# Altium schematic symbol library Schlib_Altera.SchLib: 17 symbols (part 1 of 4)
Pins are listed as number, name and electrical type; pins without a type are passive.

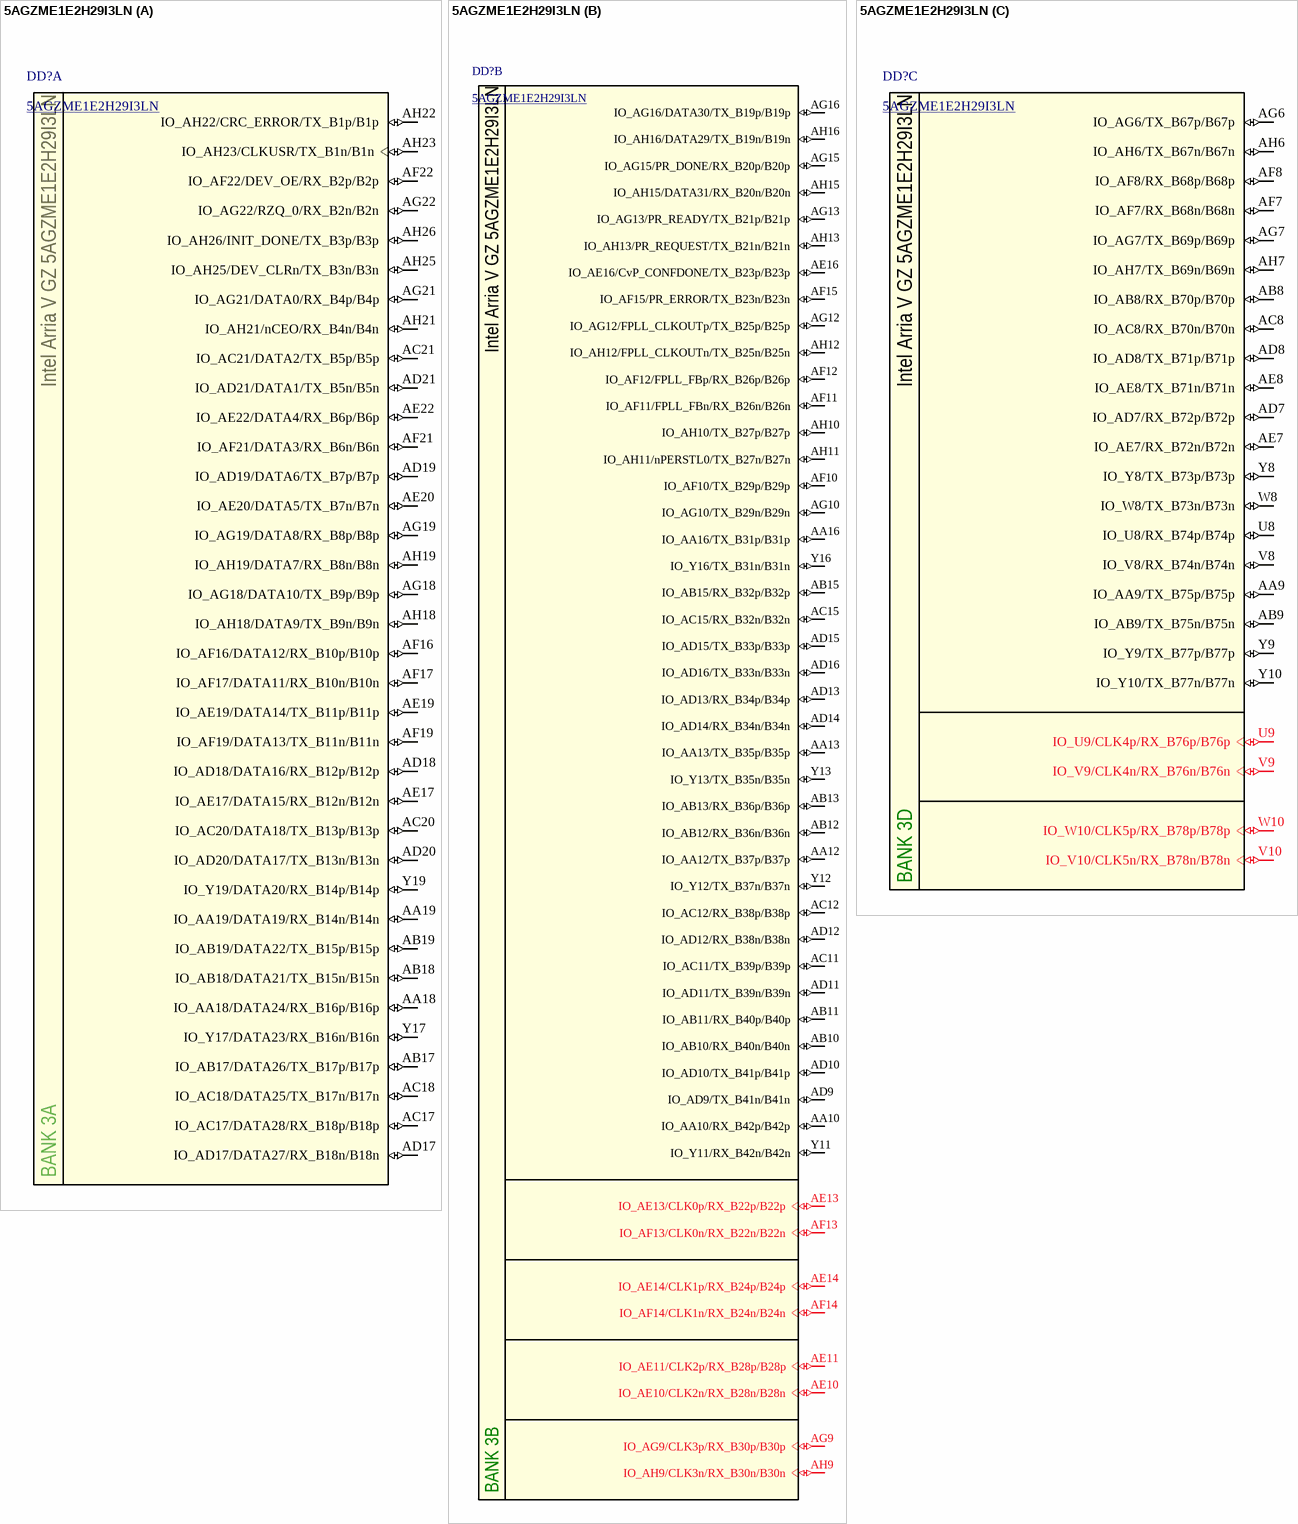
[diagram p0: symbol 5AGZME1E2H29I3LN]

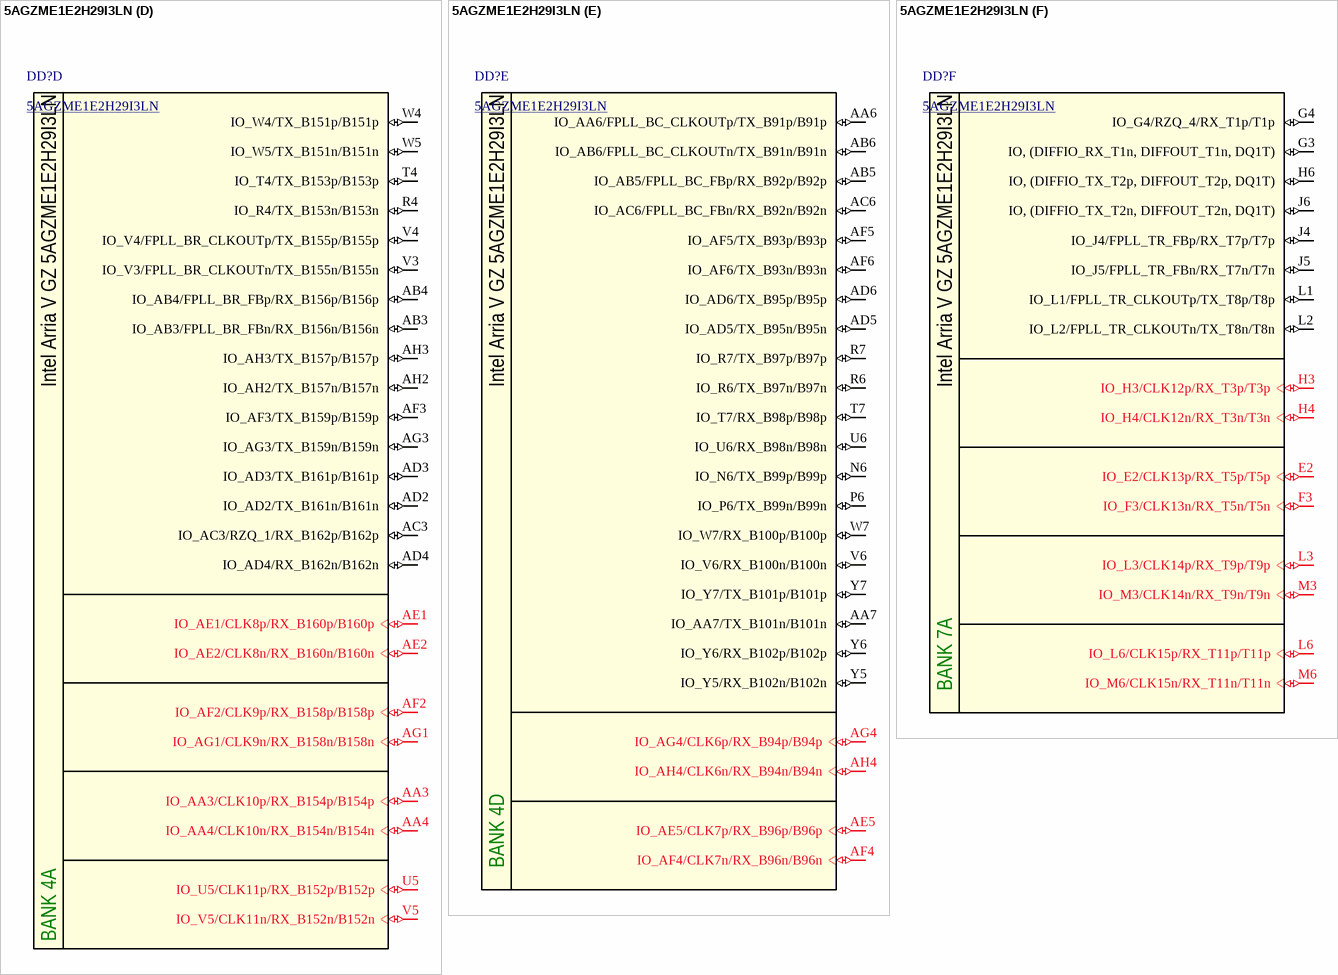
[diagram p1: symbol 5AGZME1E2H29I3LN]

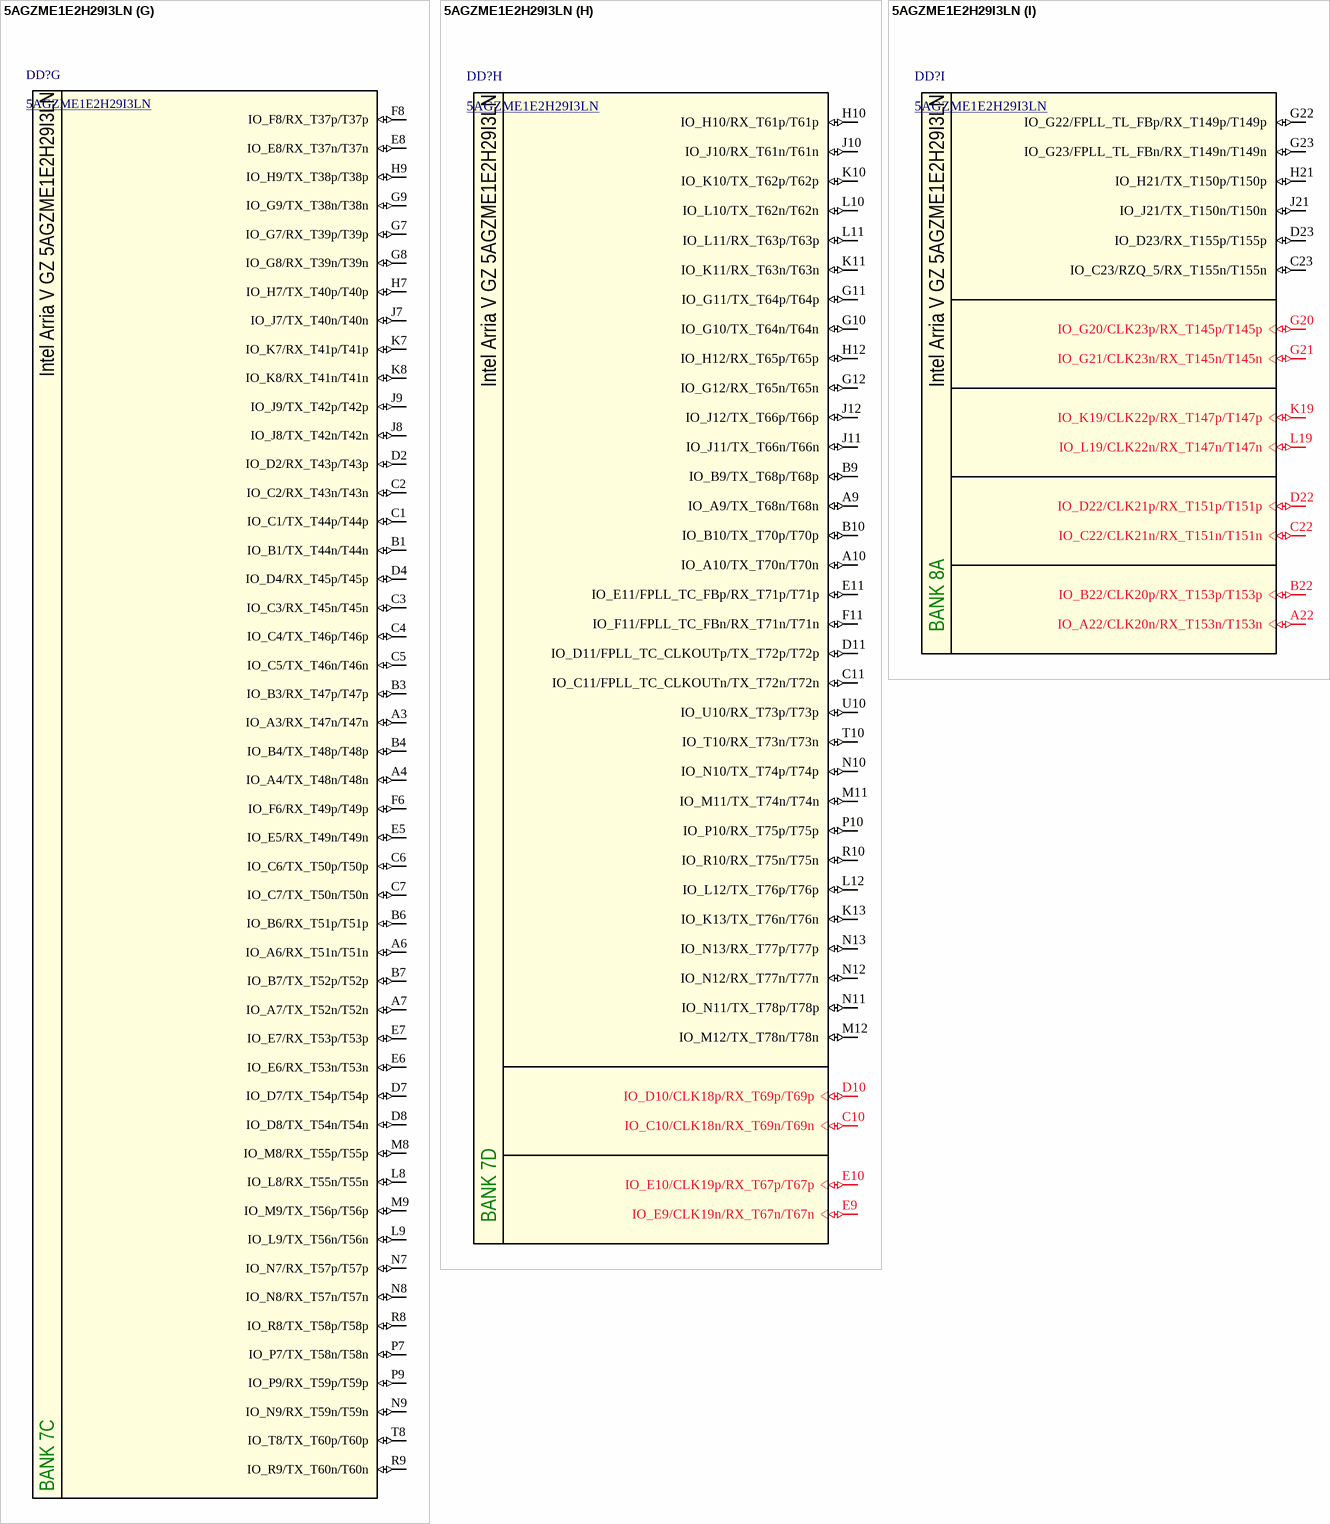
[diagram p2: symbol 5AGZME1E2H29I3LN]

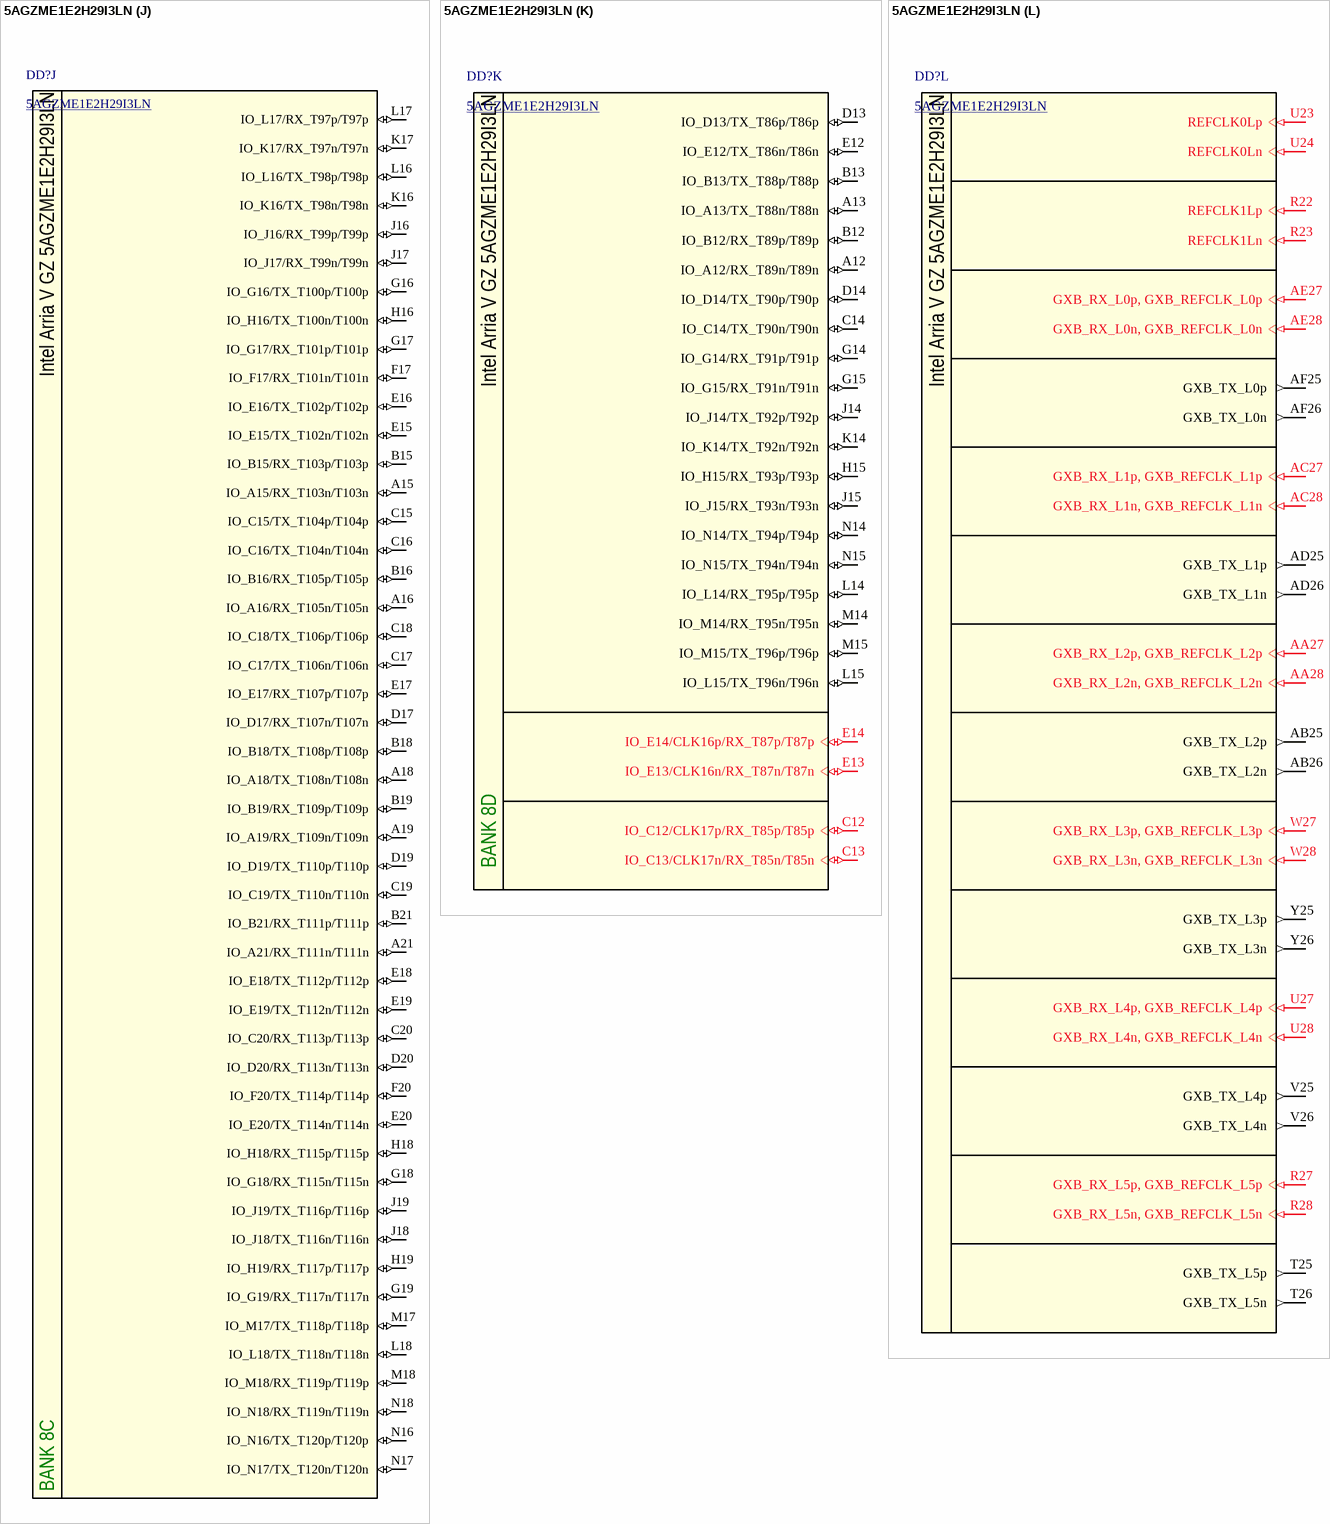
[diagram p3: symbol 5AGZME1E2H29I3LN]

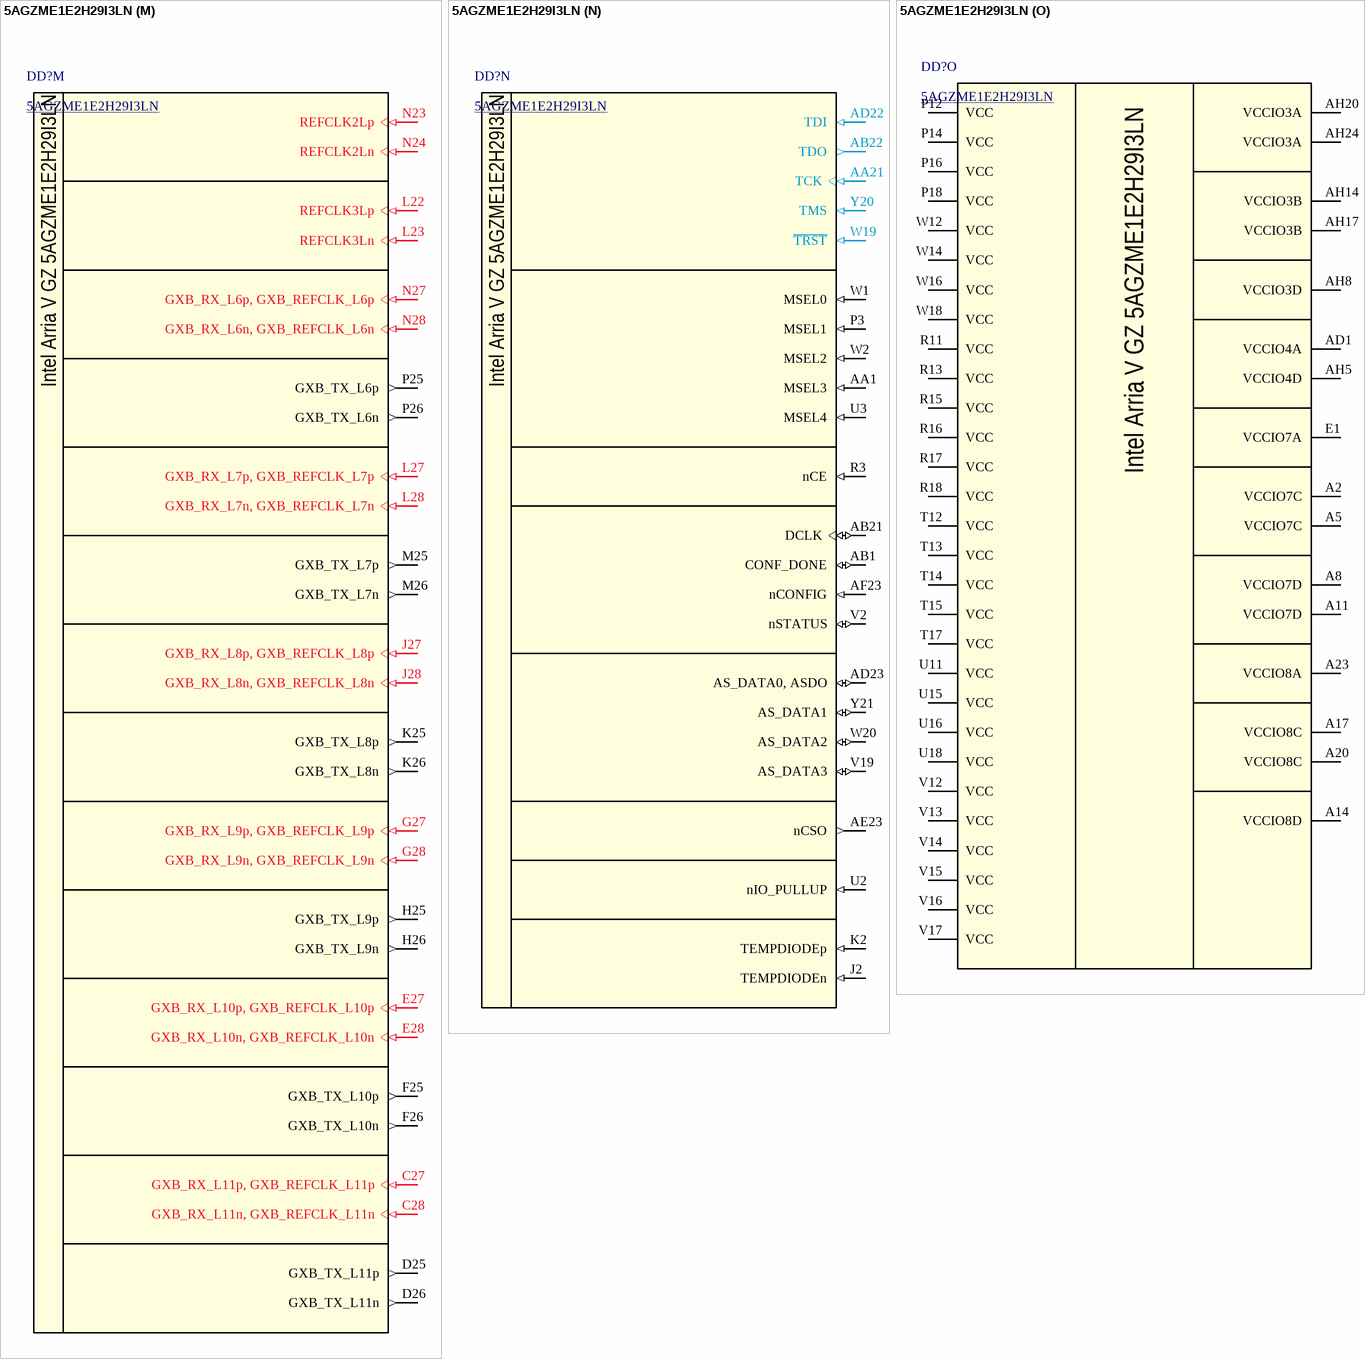
[diagram p4: symbol 5AGZME1E2H29I3LN]

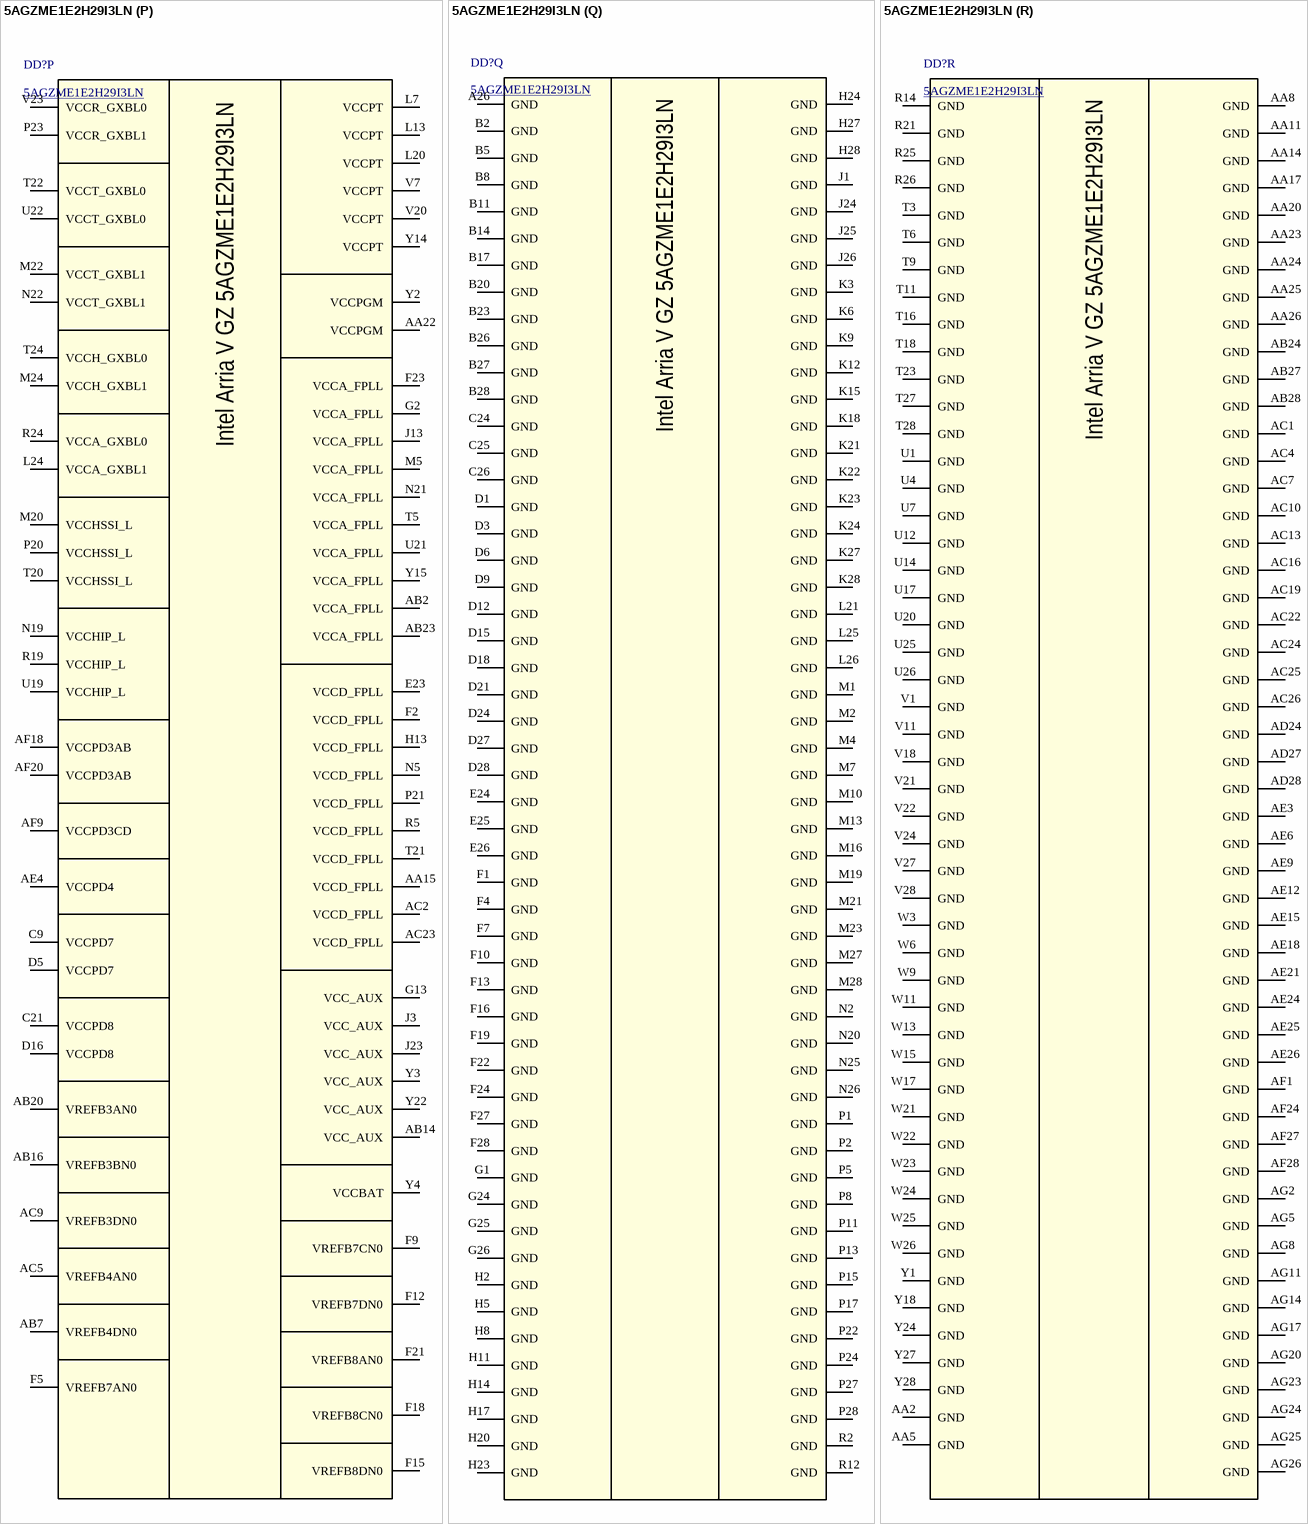
[diagram p5: symbol 5AGZME1E2H29I3LN]

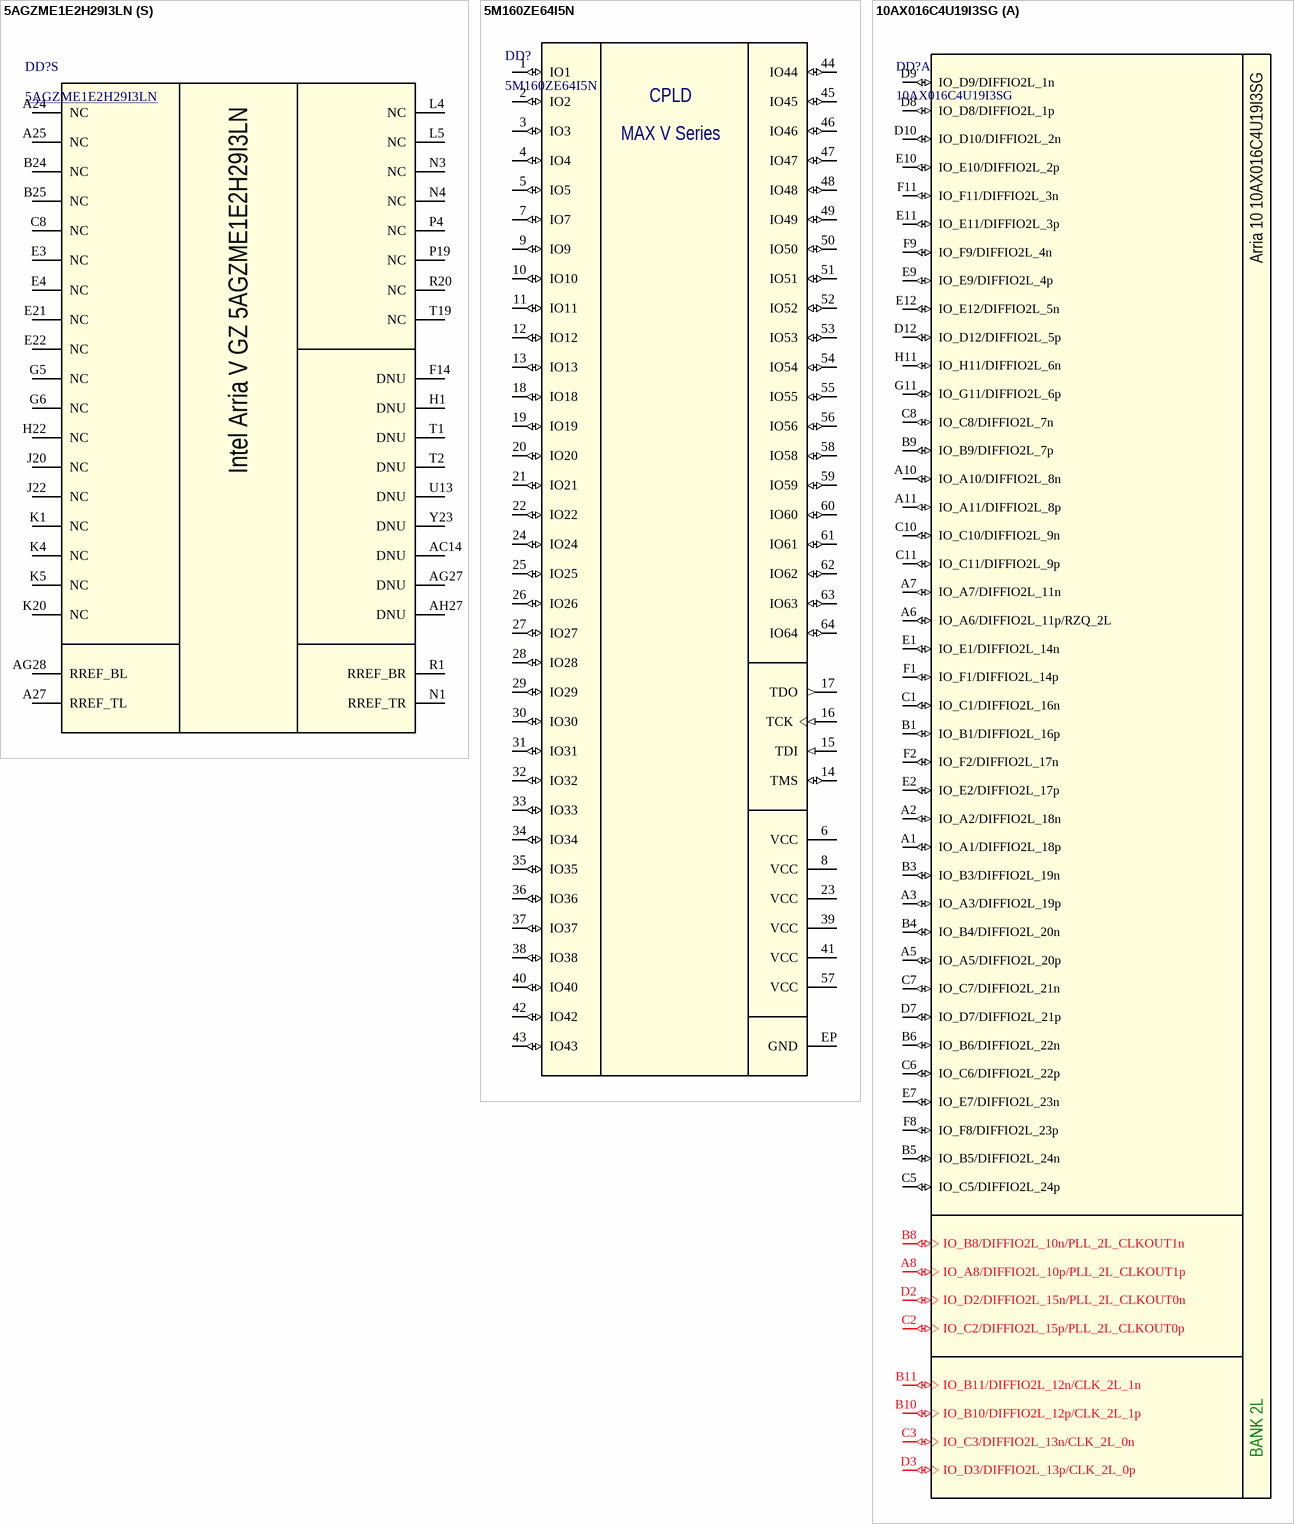
[diagram p6: symbols 5AGZME1E2H29I3LN to 10AX016C4U19I3SG]

## 5AGZME1E2H29I3LN
designator DD?
Arria V GZ Family FPGA, 0.82 to 0.88 V Supply, 342 I/O Pins, 20 PLLs, 780-Pin HBGA, Speed Grade 3, Industrial Grade, RoHS Compliant; Manufacturer: Altera/Intel; GPIO: 342; Logic Elements (LE) (K): 220; Pb-Free: TRUE; Speed Grade: 3; DatasheetVersion: Rev. 3.5; PackageVersion: Rev. 3.0, 07/2012; PackageReference: HBGA780_A-360; PackageDescription: 780-Pin Hybrid FineLine Ball-Grid Array (HBGA), Body 33 x 33 mm, Pitch 1 mm; Supplier 1: Digi-Key; Supplier Part Number 1: 5AGZME1E2H29I3LN-ND; Supplier 2: Mouser; Supplier Part Number 2: 989-5AGZME1E2H29I3LN; Device Group: 5AGZME1; NexusDeviceID: 5AGZME1E2H29I3LN; RoHS: RoHS Compliant; Subcategory: Arria V GZ; Voltage Supply: 0.82 to 0.88 V; Mounting Technology: Surface Mount; Code_JEDEC: MS-034; PartNumber: 5AGZME1E2H29I3LN; ComponentLink1Description: Manufacturer URL; ComponentLink1URL: http://www.altera.com; ComponentLink2Description: Datasheet; ComponentLink2URL: http://www.altera.com/literature/hb/arria-v/av_51002.pdf; ComponentLink3Description: Package Specification; ComponentLink3URL: http://www.altera.com/devicepackaging/04R00443-02.pdf; ComponentLink4Description: Device Handbook URL; ComponentLink4URL: http://www.altera.com/literature/hb/arria-v/arriav_handbook.pdf; ComponentLink5Description: Device Overview URL; ComponentLink5URL: http://www.altera.com/literature/hb/arria-v/av_51001.pdf; ComponentLink6Description: Device Pin-Out URL; ComponentLink6URL: http://www.altera.com/literature/dp/arria-v/5AGZME1.xls; ComponentLink7Description: Product URL; ComponentLink7URL: http://www.buyaltera.com/scripts/partsearch.dll?Detail&name=5AGZME1E2H29I3LN-ND
footprint HBGA-780 (BGA, 780-Balls, Body 33x33mm, Pitch 1mm)
part A pins: AA18 IO_AA18/DATA24/RX_B16p/B16p (io), AA19 IO_AA19/DATA19/RX_B14n/B14n (io), AB17 IO_AB17/DATA26/TX_B17p/B17p (io), AB18 IO_AB18/DATA21/TX_B15n/B15n (io), AB19 IO_AB19/DATA22/TX_B15p/B15p (io), AC17 IO_AC17/DATA28/RX_B18p/B18p (io), AC18 IO_AC18/DATA25/TX_B17n/B17n (io), AC20 IO_AC20/DATA18/TX_B13p/B13p (io), AC21 IO_AC21/DATA2/TX_B5p/B5p (io), AD17 IO_AD17/DATA27/RX_B18n/B18n (io), AD18 IO_AD18/DATA16/RX_B12p/B12p (io), AD19 IO_AD19/DATA6/TX_B7p/B7p (io), AD20 IO_AD20/DATA17/TX_B13n/B13n (io), AD21 IO_AD21/DATA1/TX_B5n/B5n (io), AE17 IO_AE17/DATA15/RX_B12n/B12n (io), AE19 IO_AE19/DATA14/TX_B11p/B11p (io), AE20 IO_AE20/DATA5/TX_B7n/B7n (io), AE22 IO_AE22/DATA4/RX_B6p/B6p (io), AF16 IO_AF16/DATA12/RX_B10p/B10p (io), AF17 IO_AF17/DATA11/RX_B10n/B10n (io), AF19 IO_AF19/DATA13/TX_B11n/B11n (io), AF21 IO_AF21/DATA3/RX_B6n/B6n (io), AF22 IO_AF22/DEV_OE/RX_B2p/B2p (io), AG18 IO_AG18/DATA10/TX_B9p/B9p (io), AG19 IO_AG19/DATA8/RX_B8p/B8p (io), AG21 IO_AG21/DATA0/RX_B4p/B4p (io), AG22 IO_AG22/RZQ_0/RX_B2n/B2n (io), AH18 IO_AH18/DATA9/TX_B9n/B9n (io), AH19 IO_AH19/DATA7/RX_B8n/B8n (io), AH21 IO_AH21/nCEO/RX_B4n/B4n (io), AH22 IO_AH22/CRC_ERROR/TX_B1p/B1p (io), AH23 IO_AH23/CLKUSR/TX_B1n/B1n (io), AH25 IO_AH25/DEV_CLRn/TX_B3n/B3n (io), AH26 IO_AH26/INIT_DONE/TX_B3p/B3p (io), Y17 IO_Y17/DATA23/RX_B16n/B16n (io), Y19 IO_Y19/DATA20/RX_B14p/B14p (io)
part B pins: AA10 IO_AA10/RX_B42p/B42p (io), AA12 IO_AA12/TX_B37p/B37p (io), AA13 IO_AA13/TX_B35p/B35p (io), AA16 IO_AA16/TX_B31p/B31p (io), AB10 IO_AB10/RX_B40n/B40n (io), AB11 IO_AB11/RX_B40p/B40p (io), AB12 IO_AB12/RX_B36n/B36n (io), AB13 IO_AB13/RX_B36p/B36p (io), AB15 IO_AB15/RX_B32p/B32p (io), AC11 IO_AC11/TX_B39p/B39p (io), AC12 IO_AC12/RX_B38p/B38p (io), AC15 IO_AC15/RX_B32n/B32n (io), AD9 IO_AD9/TX_B41n/B41n (io), AD10 IO_AD10/TX_B41p/B41p (io), AD11 IO_AD11/TX_B39n/B39n (io), AD12 IO_AD12/RX_B38n/B38n (io), AD13 IO_AD13/RX_B34p/B34p (io), AD14 IO_AD14/RX_B34n/B34n (io), AD15 IO_AD15/TX_B33p/B33p (io), AD16 IO_AD16/TX_B33n/B33n (io), AE10 IO_AE10/CLK2n/RX_B28n/B28n (io), AE11 IO_AE11/CLK2p/RX_B28p/B28p (io), AE13 IO_AE13/CLK0p/RX_B22p/B22p (io), AE14 IO_AE14/CLK1p/RX_B24p/B24p (io), AE16 IO_AE16/CvP_CONFDONE/TX_B23p/B23p (io), AF10 IO_AF10/TX_B29p/B29p (io), AF11 IO_AF11/FPLL_FBn/RX_B26n/B26n (io), AF12 IO_AF12/FPLL_FBp/RX_B26p/B26p (io), AF13 IO_AF13/CLK0n/RX_B22n/B22n (io), AF14 IO_AF14/CLK1n/RX_B24n/B24n (io), AF15 IO_AF15/PR_ERROR/TX_B23n/B23n (io), AG9 IO_AG9/CLK3p/RX_B30p/B30p (io), AG10 IO_AG10/TX_B29n/B29n (io), AG12 IO_AG12/FPLL_CLKOUTp/TX_B25p/B25p (io), AG13 IO_AG13/PR_READY/TX_B21p/B21p (io), AG15 IO_AG15/PR_DONE/RX_B20p/B20p (io), AG16 IO_AG16/DATA30/TX_B19p/B19p (io), AH9 IO_AH9/CLK3n/RX_B30n/B30n (io), AH10 IO_AH10/TX_B27p/B27p (io), AH11 IO_AH11/nPERSTL0/TX_B27n/B27n (io), AH12 IO_AH12/FPLL_CLKOUTn/TX_B25n/B25n (io), AH13 IO_AH13/PR_REQUEST/TX_B21n/B21n (io), AH15 IO_AH15/DATA31/RX_B20n/B20n (io), AH16 IO_AH16/DATA29/TX_B19n/B19n (io), Y11 IO_Y11/RX_B42n/B42n (io), Y12 IO_Y12/TX_B37n/B37n (io), Y13 IO_Y13/TX_B35n/B35n (io), Y16 IO_Y16/TX_B31n/B31n (io)
part C pins: AA9 IO_AA9/TX_B75p/B75p (io), AB8 IO_AB8/RX_B70p/B70p (io), AB9 IO_AB9/TX_B75n/B75n (io), AC8 IO_AC8/RX_B70n/B70n (io), AD7 IO_AD7/RX_B72p/B72p (io), AD8 IO_AD8/TX_B71p/B71p (io), AE7 IO_AE7/RX_B72n/B72n (io), AE8 IO_AE8/TX_B71n/B71n (io), AF7 IO_AF7/RX_B68n/B68n (io), AF8 IO_AF8/RX_B68p/B68p (io), AG6 IO_AG6/TX_B67p/B67p (io), AG7 IO_AG7/TX_B69p/B69p (io), AH6 IO_AH6/TX_B67n/B67n (io), AH7 IO_AH7/TX_B69n/B69n (io), U8 IO_U8/RX_B74p/B74p (io), U9 IO_U9/CLK4p/RX_B76p/B76p (io), V8 IO_V8/RX_B74n/B74n (io), V9 IO_V9/CLK4n/RX_B76n/B76n (io), V10 IO_V10/CLK5n/RX_B78n/B78n (io), W8 IO_W8/TX_B73n/B73n (io), W10 IO_W10/CLK5p/RX_B78p/B78p (io), Y8 IO_Y8/TX_B73p/B73p (io), Y9 IO_Y9/TX_B77p/B77p (io), Y10 IO_Y10/TX_B77n/B77n (io)
part D pins: AA3 IO_AA3/CLK10p/RX_B154p/B154p (io), AA4 IO_AA4/CLK10n/RX_B154n/B154n (io), AB3 IO_AB3/FPLL_BR_FBn/RX_B156n/B156n (io), AB4 IO_AB4/FPLL_BR_FBp/RX_B156p/B156p (io), AC3 IO_AC3/RZQ_1/RX_B162p/B162p (io), AD2 IO_AD2/TX_B161n/B161n (io), AD3 IO_AD3/TX_B161p/B161p (io), AD4 IO_AD4/RX_B162n/B162n (io), AE1 IO_AE1/CLK8p/RX_B160p/B160p (io), AE2 IO_AE2/CLK8n/RX_B160n/B160n (io), AF2 IO_AF2/CLK9p/RX_B158p/B158p (io), AF3 IO_AF3/TX_B159p/B159p (io), AG1 IO_AG1/CLK9n/RX_B158n/B158n (io), AG3 IO_AG3/TX_B159n/B159n (io), AH2 IO_AH2/TX_B157n/B157n (io), AH3 IO_AH3/TX_B157p/B157p (io), R4 IO_R4/TX_B153n/B153n (io), T4 IO_T4/TX_B153p/B153p (io), U5 IO_U5/CLK11p/RX_B152p/B152p (io), V3 IO_V3/FPLL_BR_CLKOUTn/TX_B155n/B155n (io), V4 IO_V4/FPLL_BR_CLKOUTp/TX_B155p/B155p (io), V5 IO_V5/CLK11n/RX_B152n/B152n (io), W4 IO_W4/TX_B151p/B151p (io), W5 IO_W5/TX_B151n/B151n (io)
part E pins: AA6 IO_AA6/FPLL_BC_CLKOUTp/TX_B91p/B91p (io), AA7 IO_AA7/TX_B101n/B101n (io), AB5 IO_AB5/FPLL_BC_FBp/RX_B92p/B92p (io), AB6 IO_AB6/FPLL_BC_CLKOUTn/TX_B91n/B91n (io), AC6 IO_AC6/FPLL_BC_FBn/RX_B92n/B92n (io), AD5 IO_AD5/TX_B95n/B95n (io), AD6 IO_AD6/TX_B95p/B95p (io), AE5 IO_AE5/CLK7p/RX_B96p/B96p (io), AF4 IO_AF4/CLK7n/RX_B96n/B96n (io), AF5 IO_AF5/TX_B93p/B93p (io), AF6 IO_AF6/TX_B93n/B93n (io), AG4 IO_AG4/CLK6p/RX_B94p/B94p (io), AH4 IO_AH4/CLK6n/RX_B94n/B94n (io), N6 IO_N6/TX_B99p/B99p (io), P6 IO_P6/TX_B99n/B99n (io), R6 IO_R6/TX_B97n/B97n (io), R7 IO_R7/TX_B97p/B97p (io), T7 IO_T7/RX_B98p/B98p (io), U6 IO_U6/RX_B98n/B98n (io), V6 IO_V6/RX_B100n/B100n (io), W7 IO_W7/RX_B100p/B100p (io), Y5 IO_Y5/RX_B102n/B102n (io), Y6 IO_Y6/RX_B102p/B102p (io), Y7 IO_Y7/TX_B101p/B101p (io)
part F pins: E2 IO_E2/CLK13p/RX_T5p/T5p (io), F3 IO_F3/CLK13n/RX_T5n/T5n (io), G3 IO, (DIFFIO_RX_T1n, DIFFOUT_T1n, DQ1T) (io), G4 IO_G4/RZQ_4/RX_T1p/T1p (io), H3 IO_H3/CLK12p/RX_T3p/T3p (io), H4 IO_H4/CLK12n/RX_T3n/T3n (io), H6 IO, (DIFFIO_TX_T2p, DIFFOUT_T2p, DQ1T) (io), J4 IO_J4/FPLL_TR_FBp/RX_T7p/T7p (io), J5 IO_J5/FPLL_TR_FBn/RX_T7n/T7n (io), J6 IO, (DIFFIO_TX_T2n, DIFFOUT_T2n, DQ1T) (io), L1 IO_L1/FPLL_TR_CLKOUTp/TX_T8p/T8p (io), L2 IO_L2/FPLL_TR_CLKOUTn/TX_T8n/T8n (io), L3 IO_L3/CLK14p/RX_T9p/T9p (io), L6 IO_L6/CLK15p/RX_T11p/T11p (io), M3 IO_M3/CLK14n/RX_T9n/T9n (io), M6 IO_M6/CLK15n/RX_T11n/T11n (io)
part G pins: A3 IO_A3/RX_T47n/T47n (io), A4 IO_A4/TX_T48n/T48n (io), A6 IO_A6/RX_T51n/T51n (io), A7 IO_A7/TX_T52n/T52n (io), B1 IO_B1/TX_T44n/T44n (io), B3 IO_B3/RX_T47p/T47p (io), B4 IO_B4/TX_T48p/T48p (io), B6 IO_B6/RX_T51p/T51p (io), B7 IO_B7/TX_T52p/T52p (io), C1 IO_C1/TX_T44p/T44p (io), C2 IO_C2/RX_T43n/T43n (io), C3 IO_C3/RX_T45n/T45n (io), C4 IO_C4/TX_T46p/T46p (io), C5 IO_C5/TX_T46n/T46n (io), C6 IO_C6/TX_T50p/T50p (io), C7 IO_C7/TX_T50n/T50n (io), D2 IO_D2/RX_T43p/T43p (io), D4 IO_D4/RX_T45p/T45p (io), D7 IO_D7/TX_T54p/T54p (io), D8 IO_D8/TX_T54n/T54n (io), E5 IO_E5/RX_T49n/T49n (io), E6 IO_E6/RX_T53n/T53n (io), E7 IO_E7/RX_T53p/T53p (io), E8 IO_E8/RX_T37n/T37n (io), F6 IO_F6/RX_T49p/T49p (io), F8 IO_F8/RX_T37p/T37p (io), G7 IO_G7/RX_T39p/T39p (io), G8 IO_G8/RX_T39n/T39n (io), G9 IO_G9/TX_T38n/T38n (io), H7 IO_H7/TX_T40p/T40p (io), H9 IO_H9/TX_T38p/T38p (io), J7 IO_J7/TX_T40n/T40n (io), J8 IO_J8/TX_T42n/T42n (io), J9 IO_J9/TX_T42p/T42p (io), K7 IO_K7/RX_T41p/T41p (io), K8 IO_K8/RX_T41n/T41n (io), L8 IO_L8/RX_T55n/T55n (io), L9 IO_L9/TX_T56n/T56n (io), M8 IO_M8/RX_T55p/T55p (io), M9 IO_M9/TX_T56p/T56p (io), N7 IO_N7/RX_T57p/T57p (io), N8 IO_N8/RX_T57n/T57n (io), N9 IO_N9/RX_T59n/T59n (io), P7 IO_P7/TX_T58n/T58n (io), P9 IO_P9/RX_T59p/T59p (io), R8 IO_R8/TX_T58p/T58p (io), R9 IO_R9/TX_T60n/T60n (io), T8 IO_T8/TX_T60p/T60p (io)
part H pins: A9 IO_A9/TX_T68n/T68n (io), A10 IO_A10/TX_T70n/T70n (io), B9 IO_B9/TX_T68p/T68p (io), B10 IO_B10/TX_T70p/T70p (io), C10 IO_C10/CLK18n/RX_T69n/T69n (io), C11 IO_C11/FPLL_TC_CLKOUTn/TX_T72n/T72n (io), D10 IO_D10/CLK18p/RX_T69p/T69p (io), D11 IO_D11/FPLL_TC_CLKOUTp/TX_T72p/T72p (io), E9 IO_E9/CLK19n/RX_T67n/T67n (io), E10 IO_E10/CLK19p/RX_T67p/T67p (io), E11 IO_E11/FPLL_TC_FBp/RX_T71p/T71p (io), F11 IO_F11/FPLL_TC_FBn/RX_T71n/T71n (io), G10 IO_G10/TX_T64n/T64n (io), G11 IO_G11/TX_T64p/T64p (io), G12 IO_G12/RX_T65n/T65n (io), H10 IO_H10/RX_T61p/T61p (io), H12 IO_H12/RX_T65p/T65p (io), J10 IO_J10/RX_T61n/T61n (io), J11 IO_J11/TX_T66n/T66n (io), J12 IO_J12/TX_T66p/T66p (io), K10 IO_K10/TX_T62p/T62p (io), K11 IO_K11/RX_T63n/T63n (io), K13 IO_K13/TX_T76n/T76n (io), L10 IO_L10/TX_T62n/T62n (io), L11 IO_L11/RX_T63p/T63p (io), L12 IO_L12/TX_T76p/T76p (io), M11 IO_M11/TX_T74n/T74n (io), M12 IO_M12/TX_T78n/T78n (io), N10 IO_N10/TX_T74p/T74p (io), N11 IO_N11/TX_T78p/T78p (io), N12 IO_N12/RX_T77n/T77n (io), N13 IO_N13/RX_T77p/T77p (io), P10 IO_P10/RX_T75p/T75p (io), R10 IO_R10/RX_T75n/T75n (io), T10 IO_T10/RX_T73n/T73n (io), U10 IO_U10/RX_T73p/T73p (io)
part I pins: A22 IO_A22/CLK20n/RX_T153n/T153n (io), B22 IO_B22/CLK20p/RX_T153p/T153p (io), C22 IO_C22/CLK21n/RX_T151n/T151n (io), C23 IO_C23/RZQ_5/RX_T155n/T155n (io), D22 IO_D22/CLK21p/RX_T151p/T151p (io), D23 IO_D23/RX_T155p/T155p (io), G20 IO_G20/CLK23p/RX_T145p/T145p (io), G21 IO_G21/CLK23n/RX_T145n/T145n (io), G22 IO_G22/FPLL_TL_FBp/RX_T149p/T149p (io), G23 IO_G23/FPLL_TL_FBn/RX_T149n/T149n (io), H21 IO_H21/TX_T150p/T150p (io), J21 IO_J21/TX_T150n/T150n (io), K19 IO_K19/CLK22p/RX_T147p/T147p (io), L19 IO_L19/CLK22n/RX_T147n/T147n (io)
part J pins: A15 IO_A15/RX_T103n/T103n (io), A16 IO_A16/RX_T105n/T105n (io), A18 IO_A18/TX_T108n/T108n (io), A19 IO_A19/RX_T109n/T109n (io), A21 IO_A21/RX_T111n/T111n (io), B15 IO_B15/RX_T103p/T103p (io), B16 IO_B16/RX_T105p/T105p (io), B18 IO_B18/TX_T108p/T108p (io), B19 IO_B19/RX_T109p/T109p (io), B21 IO_B21/RX_T111p/T111p (io), C15 IO_C15/TX_T104p/T104p (io), C16 IO_C16/TX_T104n/T104n (io), C17 IO_C17/TX_T106n/T106n (io), C18 IO_C18/TX_T106p/T106p (io), C19 IO_C19/TX_T110n/T110n (io), C20 IO_C20/RX_T113p/T113p (io), D17 IO_D17/RX_T107n/T107n (io), D19 IO_D19/TX_T110p/T110p (io), D20 IO_D20/RX_T113n/T113n (io), E15 IO_E15/TX_T102n/T102n (io), E16 IO_E16/TX_T102p/T102p (io), E17 IO_E17/RX_T107p/T107p (io), E18 IO_E18/TX_T112p/T112p (io), E19 IO_E19/TX_T112n/T112n (io), E20 IO_E20/TX_T114n/T114n (io), F17 IO_F17/RX_T101n/T101n (io), F20 IO_F20/TX_T114p/T114p (io), G16 IO_G16/TX_T100p/T100p (io), G17 IO_G17/RX_T101p/T101p (io), G18 IO_G18/RX_T115n/T115n (io), G19 IO_G19/RX_T117n/T117n (io), H16 IO_H16/TX_T100n/T100n (io), H18 IO_H18/RX_T115p/T115p (io), H19 IO_H19/RX_T117p/T117p (io), J16 IO_J16/RX_T99p/T99p (io), J17 IO_J17/RX_T99n/T99n (io), J18 IO_J18/TX_T116n/T116n (io), J19 IO_J19/TX_T116p/T116p (io), K16 IO_K16/TX_T98n/T98n (io), K17 IO_K17/RX_T97n/T97n (io), L16 IO_L16/TX_T98p/T98p (io), L17 IO_L17/RX_T97p/T97p (io), L18 IO_L18/TX_T118n/T118n (io), M17 IO_M17/TX_T118p/T118p (io), M18 IO_M18/RX_T119p/T119p (io), N16 IO_N16/TX_T120p/T120p (io), N17 IO_N17/TX_T120n/T120n (io), N18 IO_N18/RX_T119n/T119n (io)
part K pins: A12 IO_A12/RX_T89n/T89n (io), A13 IO_A13/TX_T88n/T88n (io), B12 IO_B12/RX_T89p/T89p (io), B13 IO_B13/TX_T88p/T88p (io), C12 IO_C12/CLK17p/RX_T85p/T85p (io), C13 IO_C13/CLK17n/RX_T85n/T85n (io), C14 IO_C14/TX_T90n/T90n (io), D13 IO_D13/TX_T86p/T86p (io), D14 IO_D14/TX_T90p/T90p (io), E12 IO_E12/TX_T86n/T86n (io), E13 IO_E13/CLK16n/RX_T87n/T87n (io), E14 IO_E14/CLK16p/RX_T87p/T87p (io), G14 IO_G14/RX_T91p/T91p (io), G15 IO_G15/RX_T91n/T91n (io), H15 IO_H15/RX_T93p/T93p (io), J14 IO_J14/TX_T92p/T92p (io), J15 IO_J15/RX_T93n/T93n (io), K14 IO_K14/TX_T92n/T92n (io), L14 IO_L14/RX_T95p/T95p (io), L15 IO_L15/TX_T96n/T96n (io), M14 IO_M14/RX_T95n/T95n (io), M15 IO_M15/TX_T96p/T96p (io), N14 IO_N14/TX_T94p/T94p (io), N15 IO_N15/TX_T94n/T94n (io)
part L pins: AA27 GXB_RX_L2p, GXB_REFCLK_L2p (in), AA28 GXB_RX_L2n, GXB_REFCLK_L2n (in), AB25 GXB_TX_L2p (out), AB26 GXB_TX_L2n (out), AC27 GXB_RX_L1p, GXB_REFCLK_L1p (in), AC28 GXB_RX_L1n, GXB_REFCLK_L1n (in), AD25 GXB_TX_L1p (out), AD26 GXB_TX_L1n (out), AE27 GXB_RX_L0p, GXB_REFCLK_L0p (in), AE28 GXB_RX_L0n, GXB_REFCLK_L0n (in), AF25 GXB_TX_L0p (out), AF26 GXB_TX_L0n (out), R22 REFCLK1Lp (in), R23 REFCLK1Ln (in), R27 GXB_RX_L5p, GXB_REFCLK_L5p (in), R28 GXB_RX_L5n, GXB_REFCLK_L5n (in), T25 GXB_TX_L5p (out), T26 GXB_TX_L5n (out), U23 REFCLK0Lp (in), U24 REFCLK0Ln (in), U27 GXB_RX_L4p, GXB_REFCLK_L4p (in), U28 GXB_RX_L4n, GXB_REFCLK_L4n (in), V25 GXB_TX_L4p (out), V26 GXB_TX_L4n (out), W27 GXB_RX_L3p, GXB_REFCLK_L3p (in), W28 GXB_RX_L3n, GXB_REFCLK_L3n (in), Y25 GXB_TX_L3p (out), Y26 GXB_TX_L3n (out)
part M pins: C27 GXB_RX_L11p, GXB_REFCLK_L11p (in), C28 GXB_RX_L11n, GXB_REFCLK_L11n (in), D25 GXB_TX_L11p (out), D26 GXB_TX_L11n (out), E27 GXB_RX_L10p, GXB_REFCLK_L10p (in), E28 GXB_RX_L10n, GXB_REFCLK_L10n (in), F25 GXB_TX_L10p (out), F26 GXB_TX_L10n (out), G27 GXB_RX_L9p, GXB_REFCLK_L9p (in), G28 GXB_RX_L9n, GXB_REFCLK_L9n (in), H25 GXB_TX_L9p (out), H26 GXB_TX_L9n (out), J27 GXB_RX_L8p, GXB_REFCLK_L8p (in), J28 GXB_RX_L8n, GXB_REFCLK_L8n (in), K25 GXB_TX_L8p (out), K26 GXB_TX_L8n (out), L22 REFCLK3Lp (in), L23 REFCLK3Ln (in), L27 GXB_RX_L7p, GXB_REFCLK_L7p (in), L28 GXB_RX_L7n, GXB_REFCLK_L7n (in), M25 GXB_TX_L7p (out), M26 GXB_TX_L7n (out), N23 REFCLK2Lp (in), N24 REFCLK2Ln (in), N27 GXB_RX_L6p, GXB_REFCLK_L6p (in), N28 GXB_RX_L6n, GXB_REFCLK_L6n (in), P25 GXB_TX_L6p (out), P26 GXB_TX_L6n (out)
part N pins: AA1 MSEL3 (in), AA21 TCK (in), AB1 CONF_DONE (io), AB21 DCLK (io), AB22 TDO (out), AD22 TDI (in), AD23 AS_DATA0, ASDO (io), AE23 nCSO (out), AF23 nCONFIG (in), J2 TEMPDIODEn (in), K2 TEMPDIODEp (in), P3 MSEL1 (in), R3 nCE (in), U2 nIO_PULLUP (in), U3 MSEL4 (in), V2 nSTATUS (io), V19 AS_DATA3 (io), W1 MSEL0 (in), W2 MSEL2 (in), W19 ~{TRST} (in), W20 AS_DATA2 (io), Y20 TMS (in), Y21 AS_DATA1 (io)
part O pins: A2 VCCIO7C (power), A5 VCCIO7C (power), A8 VCCIO7D (power), A11 VCCIO7D (power), A14 VCCIO8D (power), A17 VCCIO8C (power), A20 VCCIO8C (power), A23 VCCIO8A (power), AD1 VCCIO4A (power), AH5 VCCIO4D (power), AH8 VCCIO3D (power), AH14 VCCIO3B (power), AH17 VCCIO3B (power), AH20 VCCIO3A (power), AH24 VCCIO3A (power), E1 VCCIO7A (power), P12 VCC (power), P14 VCC (power), P16 VCC (power), P18 VCC (power), R11 VCC (power), R13 VCC (power), R15 VCC (power), R16 VCC (power), R17 VCC (power), R18 VCC (power), T12 VCC (power), T13 VCC (power), T14 VCC (power), T15 VCC (power), T17 VCC (power), U11 VCC (power), U15 VCC (power), U16 VCC (power), U18 VCC (power), V12 VCC (power), V13 VCC (power), V14 VCC (power), V15 VCC (power), V16 VCC (power), V17 VCC (power), W12 VCC (power), W14 VCC (power), W16 VCC (power), W18 VCC (power)
part P pins: AA15 VCCD_FPLL (power), AA22 VCCPGM (power), AB2 VCCA_FPLL (power), AB7 VREFB4DN0 (power), AB14 VCC_AUX (power), AB16 VREFB3BN0 (power), AB20 VREFB3AN0 (power), AB23 VCCA_FPLL (power), AC2 VCCD_FPLL (power), AC5 VREFB4AN0 (power), AC9 VREFB3DN0 (power), AC23 VCCD_FPLL (power), AE4 VCCPD4 (power), AF9 VCCPD3CD (power), AF18 VCCPD3AB (power), AF20 VCCPD3AB (power), C9 VCCPD7 (power), C21 VCCPD8 (power), D5 VCCPD7 (power), D16 VCCPD8 (power), E23 VCCD_FPLL (power), F2 VCCD_FPLL (power), F5 VREFB7AN0 (power), F9 VREFB7CN0 (power), F12 VREFB7DN0 (power), F15 VREFB8DN0 (power), F18 VREFB8CN0 (power), F21 VREFB8AN0 (power), F23 VCCA_FPLL (power), G2 VCCA_FPLL (power), G13 VCC_AUX (power), H13 VCCD_FPLL (power), J3 VCC_AUX (power), J13 VCCA_FPLL (power), J23 VCC_AUX (power), L7 VCCPT (power), L13 VCCPT (power), L20 VCCPT (power), L24 VCCA_GXBL1 (power), M5 VCCA_FPLL (power), M20 VCCHSSI_L (power), M22 VCCT_GXBL1 (power), M24 VCCH_GXBL1 (power), N5 VCCD_FPLL (power), N19 VCCHIP_L (power), N21 VCCA_FPLL (power), N22 VCCT_GXBL1 (power), P20 VCCHSSI_L (power), P21 VCCD_FPLL (power), P23 VCCR_GXBL1 (power), R5 VCCD_FPLL (power), R19 VCCHIP_L (power), R24 VCCA_GXBL0 (power), T5 VCCA_FPLL (power), T20 VCCHSSI_L (power), T21 VCCD_FPLL (power), T22 VCCT_GXBL0 (power), T24 VCCH_GXBL0 (power), U19 VCCHIP_L (power), U21 VCCA_FPLL (power), U22 VCCT_GXBL0 (power), V7 VCCPT (power), V20 VCCPT (power), V23 VCCR_GXBL0 (power), Y2 VCCPGM (power), Y3 VCC_AUX (power), Y4 VCCBAT (power), Y14 VCCPT (power), Y15 VCCA_FPLL (power), Y22 VCC_AUX (power)
part Q pins: A26 GND (power), B2 GND (power), B5 GND (power), B8 GND (power), B11 GND (power), B14 GND (power), B17 GND (power), B20 GND (power), B23 GND (power), B26 GND (power), B27 GND (power), B28 GND (power), C24 GND (power), C25 GND (power), C26 GND (power), D1 GND (power), D3 GND (power), D6 GND (power), D9 GND (power), D12 GND (power), D15 GND (power), D18 GND (power), D21 GND (power), D24 GND (power), D27 GND (power), D28 GND (power), E24 GND (power), E25 GND (power), E26 GND (power), F1 GND (power), F4 GND (power), F7 GND (power), F10 GND (power), F13 GND (power), F16 GND (power), F19 GND (power), F22 GND (power), F24 GND (power), F27 GND (power), F28 GND (power), G1 GND (power), G24 GND (power), G25 GND (power), G26 GND (power), H2 GND (power), H5 GND (power), H8 GND (power), H11 GND (power), H14 GND (power), H17 GND (power), H20 GND (power), H23 GND (power), H24 GND (power), H27 GND (power), H28 GND (power), J1 GND (power), J24 GND (power), J25 GND (power), J26 GND (power), K3 GND (power), K6 GND (power), K9 GND (power), K12 GND (power), K15 GND (power), K18 GND (power), K21 GND (power), K22 GND (power), K23 GND (power), K24 GND (power), K27 GND (power), K28 GND (power), L21 GND (power), L25 GND (power), L26 GND (power), M1 GND (power), M2 GND (power), M4 GND (power), M7 GND (power), M10 GND (power), M13 GND (power), M16 GND (power), M19 GND (power), M21 GND (power), M23 GND (power), M27 GND (power), M28 GND (power), N2 GND (power), N20 GND (power), N25 GND (power), N26 GND (power), P1 GND (power), P2 GND (power), P5 GND (power), P8 GND (power), P11 GND (power), P13 GND (power), P15 GND (power), P17 GND (power), P22 GND (power), P24 GND (power), P27 GND (power), P28 GND (power), R2 GND (power), R12 GND (power)
part R pins: AA2 GND (power), AA5 GND (power), AA8 GND (power), AA11 GND (power), AA14 GND (power), AA17 GND (power), AA20 GND (power), AA23 GND (power), AA24 GND (power), AA25 GND (power), AA26 GND (power), AB24 GND (power), AB27 GND (power), AB28 GND (power), AC1 GND (power), AC4 GND (power), AC7 GND (power), AC10 GND (power), AC13 GND (power), AC16 GND (power), AC19 GND (power), AC22 GND (power), AC24 GND (power), AC25 GND (power), AC26 GND (power), AD24 GND (power), AD27 GND (power), AD28 GND (power), AE3 GND (power), AE6 GND (power), AE9 GND (power), AE12 GND (power), AE15 GND (power), AE18 GND (power), AE21 GND (power), AE24 GND (power), AE25 GND (power), AE26 GND (power), AF1 GND (power), AF24 GND (power), AF27 GND (power), AF28 GND (power), AG2 GND (power), AG5 GND (power), AG8 GND (power), AG11 GND (power), AG14 GND (power), AG17 GND (power), AG20 GND (power), AG23 GND (power), AG24 GND (power), AG25 GND (power), AG26 GND (power), R14 GND (power), R21 GND (power), R25 GND (power), R26 GND (power), T3 GND (power), T6 GND (power), T9 GND (power), T11 GND (power), T16 GND (power), T18 GND (power), T23 GND (power), T27 GND (power), T28 GND (power), U1 GND (power), U4 GND (power), U7 GND (power), U12 GND (power), U14 GND (power), U17 GND (power), U20 GND (power), U25 GND (power), U26 GND (power), V1 GND (power), V11 GND (power), V18 GND (power), V21 GND (power), V22 GND (power), V24 GND (power), V27 GND (power), V28 GND (power), W3 GND (power), W6 GND (power), W9 GND (power), W11 GND (power), W13 GND (power), W15 GND (power), W17 GND (power), W21 GND (power), W22 GND (power), W23 GND (power), W24 GND (power), W25 GND (power), W26 GND (power), Y1 GND (power), Y18 GND (power), Y24 GND (power), Y27 GND (power), Y28 GND (power)
part S pins: A24 NC, A25 NC, A27 RREF_TL, AC14 DNU, AG27 DNU, AG28 RREF_BL, AH27 DNU, B24 NC, B25 NC, C8 NC, E3 NC, E4 NC, E21 NC, E22 NC, F14 DNU, G5 NC, G6 NC, H1 DNU, H22 NC, J20 NC, J22 NC, K1 NC, K4 NC, K5 NC, K20 NC, L4 NC, L5 NC, N1 RREF_TR, N3 NC, N4 NC, P4 NC, P19 NC, R1 RREF_BR, R20 NC, T1 DNU, T2 DNU, T19 NC, U13 DNU, Y23 DNU
part A text: Intel Arria V GZ 5AGZME1E2H29I3LN; BANK 3A
part B text: Intel Arria V GZ 5AGZME1E2H29I3LN; BANK 3B
part C text: Intel Arria V GZ 5AGZME1E2H29I3LN; BANK 3D
part D text: Intel Arria V GZ 5AGZME1E2H29I3LN; BANK 4A
part E text: Intel Arria V GZ 5AGZME1E2H29I3LN; BANK 4D
part F text: Intel Arria V GZ 5AGZME1E2H29I3LN; BANK 7A
part G text: Intel Arria V GZ 5AGZME1E2H29I3LN; BANK 7C
part H text: Intel Arria V GZ 5AGZME1E2H29I3LN; BANK 7D
part I text: Intel Arria V GZ 5AGZME1E2H29I3LN; BANK 8A
part J text: Intel Arria V GZ 5AGZME1E2H29I3LN; BANK 8C
part K text: Intel Arria V GZ 5AGZME1E2H29I3LN; BANK 8D
part L text: Intel Arria V GZ 5AGZME1E2H29I3LN
part M text: Intel Arria V GZ 5AGZME1E2H29I3LN
part N text: Intel Arria V GZ 5AGZME1E2H29I3LN
part O text: Intel Arria V GZ 5AGZME1E2H29I3LN
part P text: Intel Arria V GZ 5AGZME1E2H29I3LN
part Q text: Intel Arria V GZ 5AGZME1E2H29I3LN
part R text: Intel Arria V GZ 5AGZME1E2H29I3LN
part S text: Intel Arria V GZ 5AGZME1E2H29I3LN

## 5M160ZE64I5N
designator DD?
CPLD Max V Series; Manufacturer: Altera/Intel; Part Number: 5M160ZE64I5N; Package: EQFP64
footprint EQFP-64 (EQFP-64 package with exponsed pad, pitch 0.4mm)
pins: 1 IO1 (io), 2 IO2 (io), 3 IO3 (io), 4 IO4 (io), 5 IO5 (io), 6 VCC (power), 7 IO7 (io), 8 VCC (power), 9 IO9 (io), 10 IO10 (io), 11 IO11 (io), 12 IO12 (io), 13 IO13 (io), 14 TMS (io), 15 TDI (in), 16 TCK (in), 17 TDO (out), 18 IO18 (io), 19 IO19 (io), 20 IO20 (io), 21 IO21 (io), 22 IO22 (io), 23 VCC (power), 24 IO24 (io), 25 IO25 (io), 26 IO26 (io), 27 IO27 (io), 28 IO28 (io), 29 IO29 (io), 30 IO30 (io), 31 IO31 (io), 32 IO32 (io), 33 IO33 (io), 34 IO34 (io), 35 IO35 (io), 36 IO36 (io), 37 IO37 (io), 38 IO38 (io), 39 VCC (power), 40 IO40 (io), 41 VCC (power), 42 IO42 (io), 43 IO43 (io), 44 IO44 (io), 45 IO45 (io), 46 IO46 (io), 47 IO47 (io), 48 IO48 (io), 49 IO49 (io), 50 IO50 (io), 51 IO51 (io), 52 IO52 (io), 53 IO53 (io), 54 IO54 (io), 55 IO55 (io), 56 IO56 (io), 57 VCC (power), 58 IO58 (io), 59 IO59 (io), 60 IO60 (io), 61 IO61 (io), 62 IO62 (io), 63 IO63 (io), 64 IO64 (io), EP GND (power)
text: CPLD; MAX V Series

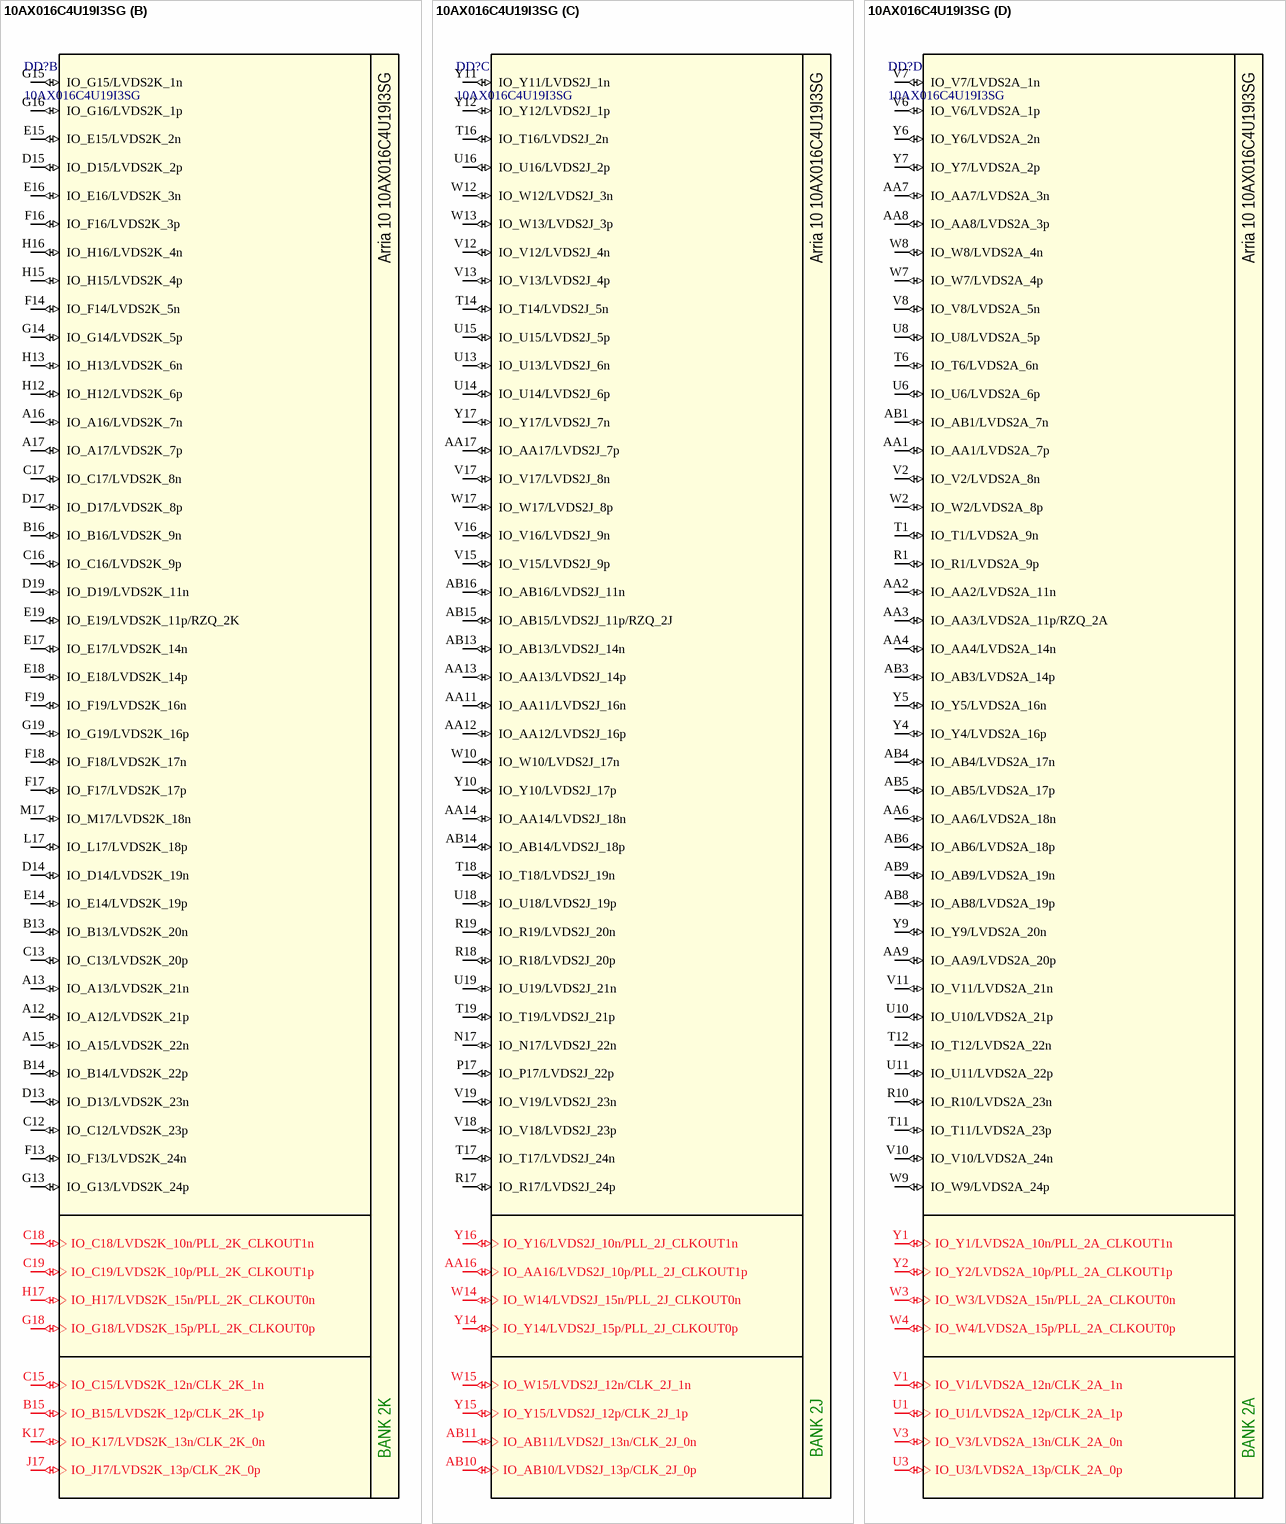
[diagram p7: symbol 10AX016C4U19I3SG]

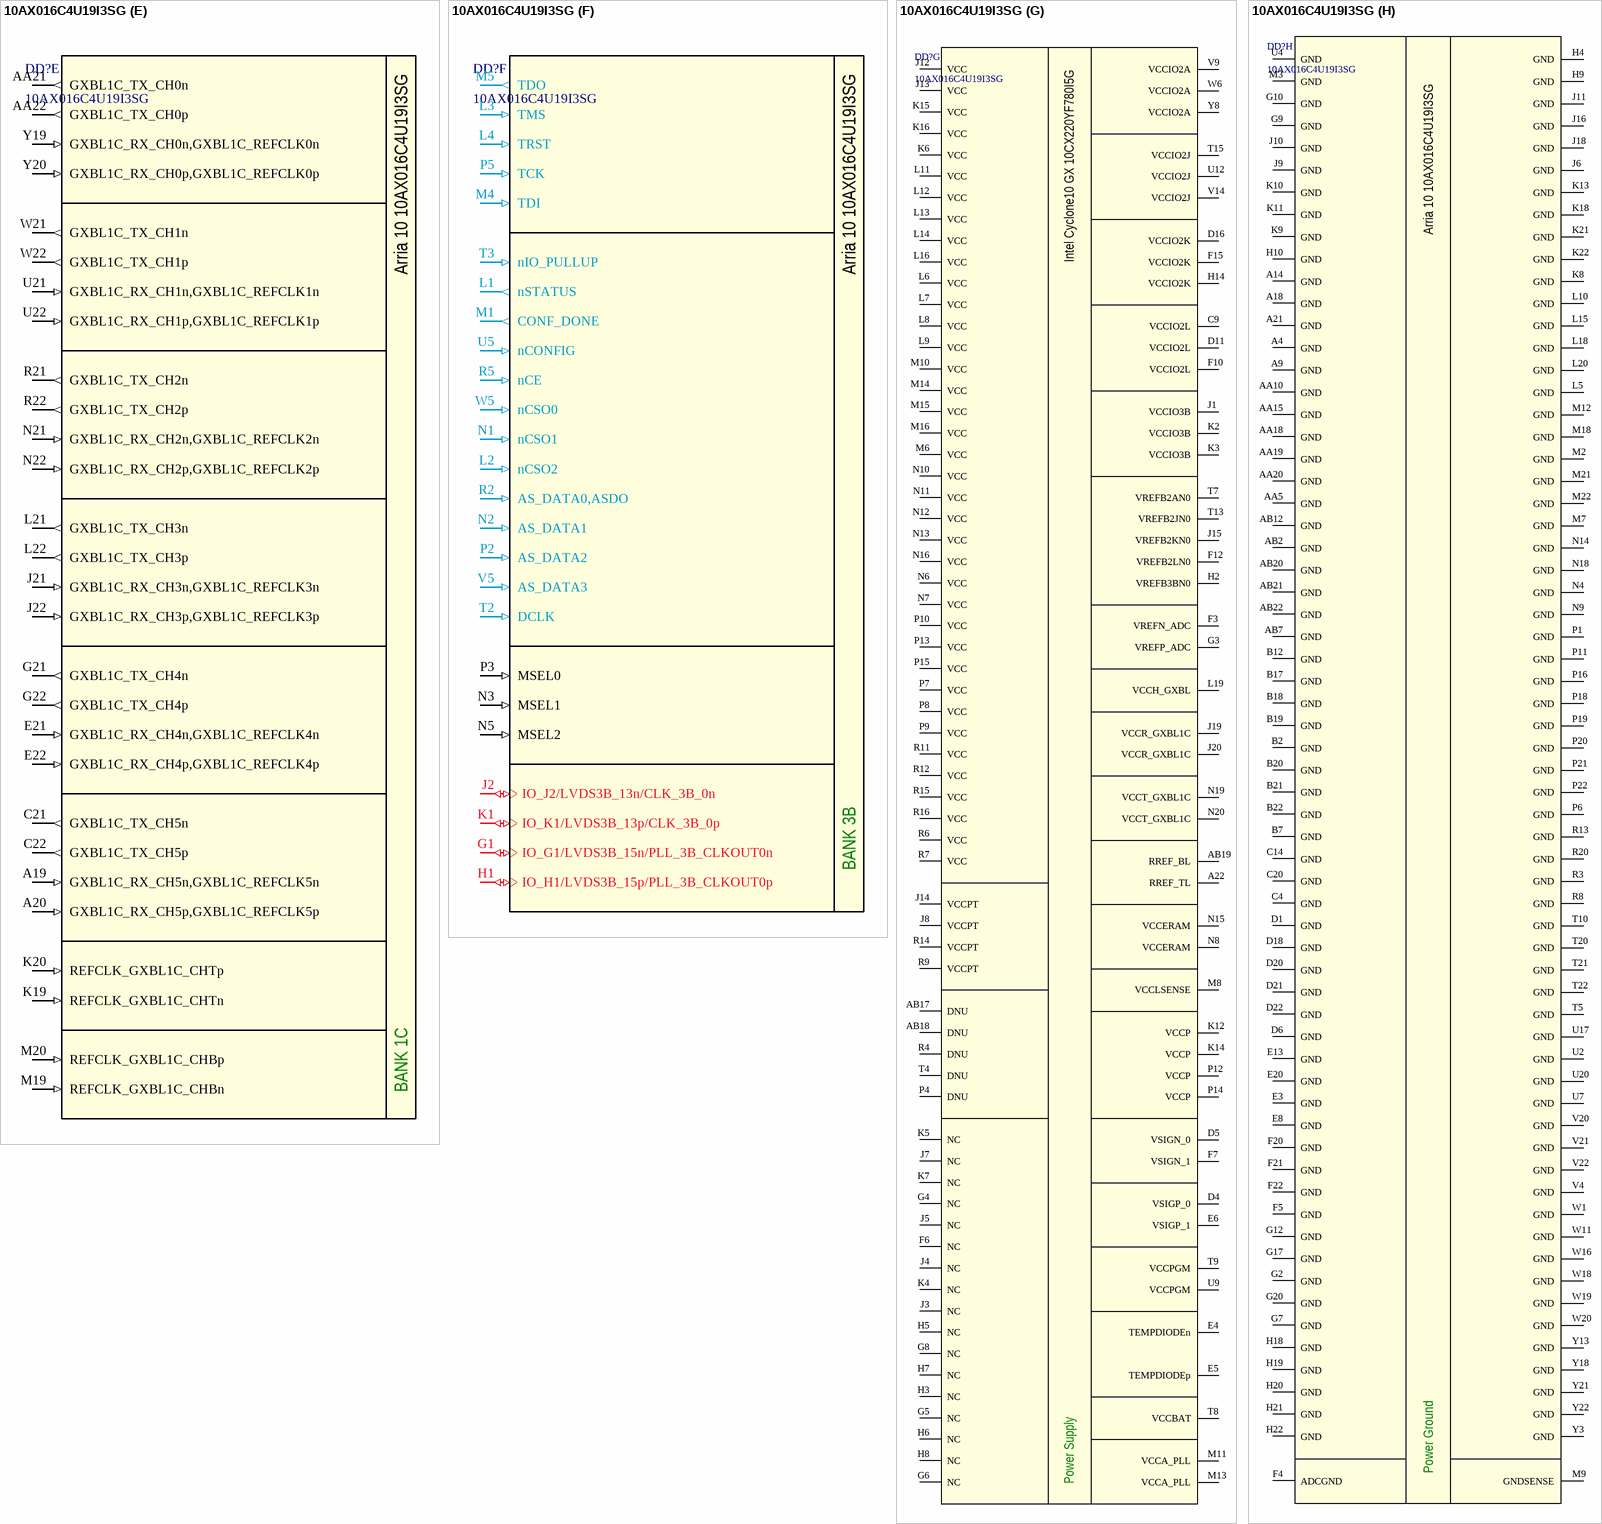
[diagram p8: symbol 10AX016C4U19I3SG]

## 10AX016C4U19I3SG
designator DD?
Intel Arria 10 FPGA with 160k LEs; Manufacturer: Altera/Intel; Part Number: 10AX016C4U19I3SG; Package: UBGA-484
footprint UBGA-484 (UBGA-484 package with 0.8mm pitch)
part A pins: A1 IO_A1/DIFFIO2L_18p (io), A2 IO_A2/DIFFIO2L_18n (io), A3 IO_A3/DIFFIO2L_19p (io), A5 IO_A5/DIFFIO2L_20p (io), A6 IO_A6/DIFFIO2L_11p/RZQ_2L (io), A7 IO_A7/DIFFIO2L_11n (io), A8 IO_A8/DIFFIO2L_10p/PLL_2L_CLKOUT1p (io), A10 IO_A10/DIFFIO2L_8n (io), A11 IO_A11/DIFFIO2L_8p (io), B1 IO_B1/DIFFIO2L_16p (io), B3 IO_B3/DIFFIO2L_19n (io), B4 IO_B4/DIFFIO2L_20n (io), B5 IO_B5/DIFFIO2L_24n (io), B6 IO_B6/DIFFIO2L_22n (io), B8 IO_B8/DIFFIO2L_10n/PLL_2L_CLKOUT1n (io), B9 IO_B9/DIFFIO2L_7p (io), B10 IO_B10/DIFFIO2L_12p/CLK_2L_1p (io), B11 IO_B11/DIFFIO2L_12n/CLK_2L_1n (io), C1 IO_C1/DIFFIO2L_16n (io), C2 IO_C2/DIFFIO2L_15p/PLL_2L_CLKOUT0p (io), C3 IO_C3/DIFFIO2L_13n/CLK_2L_0n (io), C5 IO_C5/DIFFIO2L_24p (io), C6 IO_C6/DIFFIO2L_22p (io), C7 IO_C7/DIFFIO2L_21n (io), C8 IO_C8/DIFFIO2L_7n (io), C10 IO_C10/DIFFIO2L_9n (io), C11 IO_C11/DIFFIO2L_9p (io), D2 IO_D2/DIFFIO2L_15n/PLL_2L_CLKOUT0n (io), D3 IO_D3/DIFFIO2L_13p/CLK_2L_0p (io), D7 IO_D7/DIFFIO2L_21p (io), D8 IO_D8/DIFFIO2L_1p (io), D9 IO_D9/DIFFIO2L_1n (io), D10 IO_D10/DIFFIO2L_2n (io), D12 IO_D12/DIFFIO2L_5p (io), E1 IO_E1/DIFFIO2L_14n (io), E2 IO_E2/DIFFIO2L_17p (io), E7 IO_E7/DIFFIO2L_23n (io), E9 IO_E9/DIFFIO2L_4p (io), E10 IO_E10/DIFFIO2L_2p (io), E11 IO_E11/DIFFIO2L_3p (io), E12 IO_E12/DIFFIO2L_5n (io), F1 IO_F1/DIFFIO2L_14p (io), F2 IO_F2/DIFFIO2L_17n (io), F8 IO_F8/DIFFIO2L_23p (io), F9 IO_F9/DIFFIO2L_4n (io), F11 IO_F11/DIFFIO2L_3n (io), G11 IO_G11/DIFFIO2L_6p (io), H11 IO_H11/DIFFIO2L_6n (io)
part B pins: A12 IO_A12/LVDS2K_21p (io), A13 IO_A13/LVDS2K_21n (io), A15 IO_A15/LVDS2K_22n (io), A16 IO_A16/LVDS2K_7n (io), A17 IO_A17/LVDS2K_7p (io), B13 IO_B13/LVDS2K_20n (io), B14 IO_B14/LVDS2K_22p (io), B15 IO_B15/LVDS2K_12p/CLK_2K_1p (io), B16 IO_B16/LVDS2K_9n (io), C12 IO_C12/LVDS2K_23p (io), C13 IO_C13/LVDS2K_20p (io), C15 IO_C15/LVDS2K_12n/CLK_2K_1n (io), C16 IO_C16/LVDS2K_9p (io), C17 IO_C17/LVDS2K_8n (io), C18 IO_C18/LVDS2K_10n/PLL_2K_CLKOUT1n (io), C19 IO_C19/LVDS2K_10p/PLL_2K_CLKOUT1p (io), D13 IO_D13/LVDS2K_23n (io), D14 IO_D14/LVDS2K_19n (io), D15 IO_D15/LVDS2K_2p (io), D17 IO_D17/LVDS2K_8p (io), D19 IO_D19/LVDS2K_11n (io), E14 IO_E14/LVDS2K_19p (io), E15 IO_E15/LVDS2K_2n (io), E16 IO_E16/LVDS2K_3n (io), E17 IO_E17/LVDS2K_14n (io), E18 IO_E18/LVDS2K_14p (io), E19 IO_E19/LVDS2K_11p/RZQ_2K (io), F13 IO_F13/LVDS2K_24n (io), F14 IO_F14/LVDS2K_5n (io), F16 IO_F16/LVDS2K_3p (io), F17 IO_F17/LVDS2K_17p (io), F18 IO_F18/LVDS2K_17n (io), F19 IO_F19/LVDS2K_16n (io), G13 IO_G13/LVDS2K_24p (io), G14 IO_G14/LVDS2K_5p (io), G15 IO_G15/LVDS2K_1n (io), G16 IO_G16/LVDS2K_1p (io), G18 IO_G18/LVDS2K_15p/PLL_2K_CLKOUT0p (io), G19 IO_G19/LVDS2K_16p (io), H12 IO_H12/LVDS2K_6p (io), H13 IO_H13/LVDS2K_6n (io), H15 IO_H15/LVDS2K_4p (io), H16 IO_H16/LVDS2K_4n (io), H17 IO_H17/LVDS2K_15n/PLL_2K_CLKOUT0n (io), J17 IO_J17/LVDS2K_13p/CLK_2K_0p (io), K17 IO_K17/LVDS2K_13n/CLK_2K_0n (io), L17 IO_L17/LVDS2K_18p (io), M17 IO_M17/LVDS2K_18n (io)
part C pins: AA11 IO_AA11/LVDS2J_16n (io), AA12 IO_AA12/LVDS2J_16p (io), AA13 IO_AA13/LVDS2J_14p (io), AA14 IO_AA14/LVDS2J_18n (io), AA16 IO_AA16/LVDS2J_10p/PLL_2J_CLKOUT1p (io), AA17 IO_AA17/LVDS2J_7p (io), AB10 IO_AB10/LVDS2J_13p/CLK_2J_0p (io), AB11 IO_AB11/LVDS2J_13n/CLK_2J_0n (io), AB13 IO_AB13/LVDS2J_14n (io), AB14 IO_AB14/LVDS2J_18p (io), AB15 IO_AB15/LVDS2J_11p/RZQ_2J (io), AB16 IO_AB16/LVDS2J_11n (io), N17 IO_N17/LVDS2J_22n (io), P17 IO_P17/LVDS2J_22p (io), R17 IO_R17/LVDS2J_24p (io), R18 IO_R18/LVDS2J_20p (io), R19 IO_R19/LVDS2J_20n (io), T14 IO_T14/LVDS2J_5n (io), T16 IO_T16/LVDS2J_2n (io), T17 IO_T17/LVDS2J_24n (io), T18 IO_T18/LVDS2J_19n (io), T19 IO_T19/LVDS2J_21p (io), U13 IO_U13/LVDS2J_6n (io), U14 IO_U14/LVDS2J_6p (io), U15 IO_U15/LVDS2J_5p (io), U16 IO_U16/LVDS2J_2p (io), U18 IO_U18/LVDS2J_19p (io), U19 IO_U19/LVDS2J_21n (io), V12 IO_V12/LVDS2J_4n (io), V13 IO_V13/LVDS2J_4p (io), V15 IO_V15/LVDS2J_9p (io), V16 IO_V16/LVDS2J_9n (io), V17 IO_V17/LVDS2J_8n (io), V18 IO_V18/LVDS2J_23p (io), V19 IO_V19/LVDS2J_23n (io), W10 IO_W10/LVDS2J_17n (io), W12 IO_W12/LVDS2J_3n (io), W13 IO_W13/LVDS2J_3p (io), W14 IO_W14/LVDS2J_15n/PLL_2J_CLKOUT0n (io), W15 IO_W15/LVDS2J_12n/CLK_2J_1n (io), W17 IO_W17/LVDS2J_8p (io), Y10 IO_Y10/LVDS2J_17p (io), Y11 IO_Y11/LVDS2J_1n (io), Y12 IO_Y12/LVDS2J_1p (io), Y14 IO_Y14/LVDS2J_15p/PLL_2J_CLKOUT0p (io), Y15 IO_Y15/LVDS2J_12p/CLK_2J_1p (io), Y16 IO_Y16/LVDS2J_10n/PLL_2J_CLKOUT1n (io), Y17 IO_Y17/LVDS2J_7n (io)
part D pins: AA1 IO_AA1/LVDS2A_7p (io), AA2 IO_AA2/LVDS2A_11n (io), AA3 IO_AA3/LVDS2A_11p/RZQ_2A (io), AA4 IO_AA4/LVDS2A_14n (io), AA6 IO_AA6/LVDS2A_18n (io), AA7 IO_AA7/LVDS2A_3n (io), AA8 IO_AA8/LVDS2A_3p (io), AA9 IO_AA9/LVDS2A_20p (io), AB1 IO_AB1/LVDS2A_7n (io), AB3 IO_AB3/LVDS2A_14p (io), AB4 IO_AB4/LVDS2A_17n (io), AB5 IO_AB5/LVDS2A_17p (io), AB6 IO_AB6/LVDS2A_18p (io), AB8 IO_AB8/LVDS2A_19p (io), AB9 IO_AB9/LVDS2A_19n (io), R1 IO_R1/LVDS2A_9p (io), R10 IO_R10/LVDS2A_23n (io), T1 IO_T1/LVDS2A_9n (io), T6 IO_T6/LVDS2A_6n (io), T11 IO_T11/LVDS2A_23p (io), T12 IO_T12/LVDS2A_22n (io), U1 IO_U1/LVDS2A_12p/CLK_2A_1p (io), U3 IO_U3/LVDS2A_13p/CLK_2A_0p (io), U6 IO_U6/LVDS2A_6p (io), U8 IO_U8/LVDS2A_5p (io), U10 IO_U10/LVDS2A_21p (io), U11 IO_U11/LVDS2A_22p (io), V1 IO_V1/LVDS2A_12n/CLK_2A_1n (io), V2 IO_V2/LVDS2A_8n (io), V3 IO_V3/LVDS2A_13n/CLK_2A_0n (io), V6 IO_V6/LVDS2A_1p (io), V7 IO_V7/LVDS2A_1n (io), V8 IO_V8/LVDS2A_5n (io), V10 IO_V10/LVDS2A_24n (io), V11 IO_V11/LVDS2A_21n (io), W2 IO_W2/LVDS2A_8p (io), W3 IO_W3/LVDS2A_15n/PLL_2A_CLKOUT0n (io), W4 IO_W4/LVDS2A_15p/PLL_2A_CLKOUT0p (io), W7 IO_W7/LVDS2A_4p (io), W8 IO_W8/LVDS2A_4n (io), W9 IO_W9/LVDS2A_24p (io), Y1 IO_Y1/LVDS2A_10n/PLL_2A_CLKOUT1n (io), Y2 IO_Y2/LVDS2A_10p/PLL_2A_CLKOUT1p (io), Y4 IO_Y4/LVDS2A_16p (io), Y5 IO_Y5/LVDS2A_16n (io), Y6 IO_Y6/LVDS2A_2n (io), Y7 IO_Y7/LVDS2A_2p (io), Y9 IO_Y9/LVDS2A_20n (io)
part E pins: A19 GXBL1C_RX_CH5n,GXBL1C_REFCLK5n (in), A20 GXBL1C_RX_CH5p,GXBL1C_REFCLK5p (in), AA21 GXBL1C_TX_CH0n (out), AA22 GXBL1C_TX_CH0p (out), C21 GXBL1C_TX_CH5n (out), C22 GXBL1C_TX_CH5p (out), E21 GXBL1C_RX_CH4n,GXBL1C_REFCLK4n (in), E22 GXBL1C_RX_CH4p,GXBL1C_REFCLK4p (in), G21 GXBL1C_TX_CH4n (out), G22 GXBL1C_TX_CH4p (out), J21 GXBL1C_RX_CH3n,GXBL1C_REFCLK3n (in), J22 GXBL1C_RX_CH3p,GXBL1C_REFCLK3p (in), K19 REFCLK_GXBL1C_CHTn (in), K20 REFCLK_GXBL1C_CHTp (in), L21 GXBL1C_TX_CH3n (out), L22 GXBL1C_TX_CH3p (out), M19 REFCLK_GXBL1C_CHBn (in), M20 REFCLK_GXBL1C_CHBp (in), N21 GXBL1C_RX_CH2n,GXBL1C_REFCLK2n (in), N22 GXBL1C_RX_CH2p,GXBL1C_REFCLK2p (in), R21 GXBL1C_TX_CH2n (out), R22 GXBL1C_TX_CH2p (out), U21 GXBL1C_RX_CH1n,GXBL1C_REFCLK1n (in), U22 GXBL1C_RX_CH1p,GXBL1C_REFCLK1p (in), W21 GXBL1C_TX_CH1n (out), W22 GXBL1C_TX_CH1p (out), Y19 GXBL1C_RX_CH0n,GXBL1C_REFCLK0n (in), Y20 GXBL1C_RX_CH0p,GXBL1C_REFCLK0p (in)
part F pins: G1 IO_G1/LVDS3B_15n/PLL_3B_CLKOUT0n (io), H1 IO_H1/LVDS3B_15p/PLL_3B_CLKOUT0p (io), J2 IO_J2/LVDS3B_13n/CLK_3B_0n (io), K1 IO_K1/LVDS3B_13p/CLK_3B_0p (io), L1 nSTATUS (out), L2 nCSO2 (in), L3 TMS (in), L4 TRST (in), M1 CONF_DONE (out), M4 TDI (in), M5 TDO (out), N1 nCSO1 (in), N2 AS_DATA1 (in), N3 MSEL1 (in), N5 MSEL2 (in), P2 AS_DATA2 (in), P3 MSEL0 (in), P5 TCK (in), R2 AS_DATA0,ASDO (in), R5 nCE (in), T2 DCLK (in), T3 nIO_PULLUP (in), U5 nCONFIG (in), V5 AS_DATA3 (in), W5 nCSO0 (in)
part G pins: A22 RREF_TL (power), AB17 DNU (power), AB18 DNU (power), AB19 RREF_BL (power), C9 VCCIO2L (power), D4 VSIGP_0 (power), D5 VSIGN_0 (power), D11 VCCIO2L (power), D16 VCCIO2K (power), E4 TEMPDIODEn (power), E5 TEMPDIODEp (power), E6 VSIGP_1 (power), F3 VREFN_ADC (power), F6 NC (hiz), F7 VSIGN_1 (power), F10 VCCIO2L (power), F12 VREFB2LN0 (power), F15 VCCIO2K (power), G3 VREFP_ADC (power), G4 NC (hiz), G5 NC (hiz), G6 NC (hiz), G8 NC (hiz), H2 VREFB3BN0 (power), H3 NC (hiz), H5 NC (hiz), H6 NC (hiz), H7 NC (hiz), H8 NC (hiz), H14 VCCIO2K (power), J1 VCCIO3B (power), J3 NC (hiz), J4 NC (hiz), J5 NC (hiz), J7 NC (hiz), J8 VCCPT (power), J12 VCC (power), J13 VCC (power), J14 VCCPT (power), J15 VREFB2KN0 (power), J19 VCCR_GXBL1C (power), J20 VCCR_GXBL1C (power), K2 VCCIO3B (power), K3 VCCIO3B (power), K4 NC (hiz), K5 NC (hiz), K6 VCC (power), K7 NC (hiz), K12 VCCP (power), K14 VCCP (power), K15 VCC (power), K16 VCC (power), L6 VCC (power), L7 VCC (power), L8 VCC (power), L9 VCC (power), L11 VCC (power), L12 VCC (power), L13 VCC (power), L14 VCC (power), L16 VCC (power), L19 VCCH_GXBL (power), M6 VCC (power), M8 VCCLSENSE (power), M10 VCC (power), M11 VCCA_PLL (power), M13 VCCA_PLL (power), M14 VCC (power), M15 VCC (power), M16 VCC (power), N6 VCC (power), N7 VCC (power), N8 VCCERAM (power), N10 VCC (power), N11 VCC (power), N12 VCC (power), N13 VCC (power), N15 VCCERAM (power), N16 VCC (power), N19 VCCT_GXBL1C (power), N20 VCCT_GXBL1C (power), P4 DNU (power), P7 VCC (power), P8 VCC (power), P9 VCC (power), P10 VCC (power), P12 VCCP (power), P13 VCC (power), P14 VCCP (power), P15 VCC (power), R4 DNU (power), R6 VCC (power), R7 VCC (power), R9 VCCPT (power), R11 VCC (power), R12 VCC (power), R14 VCCPT (power), R15 VCC (power), R16 VCC (power), T4 DNU (power), T7 VREFB2AN0 (power), T8 VCCBAT (power), T9 VCCPGM (power), T13 VREFB2JN0 (power), T15 VCCIO2J (power), U9 VCCPGM (power), U12 VCCIO2J (power), V9 VCCIO2A (power), V14 VCCIO2J (power), W6 VCCIO2A (power), Y8 VCCIO2A (power)
part H pins: A4 GND (power), A9 GND (power), A14 GND (power), A18 GND (power), A21 GND (power), AA5 GND (power), AA10 GND (power), AA15 GND (power), AA18 GND (power), AA19 GND (power), AA20 GND (power), AB2 GND (power), AB7 GND (power), AB12 GND (power), AB20 GND (power), AB21 GND (power), AB22 GND (power), B2 GND (power), B7 GND (power), B12 GND (power), B17 GND (power), B18 GND (power), B19 GND (power), B20 GND (power), B21 GND (power), B22 GND (power), C4 GND (power), C14 GND (power), C20 GND (power), D1 GND (power), D6 GND (power), D18 GND (power), D20 GND (power), D21 GND (power), D22 GND (power), E3 GND (power), E8 GND (power), E13 GND (power), E20 GND (power), F4 ADCGND (power), F5 GND (power), F20 GND (power), F21 GND (power), F22 GND (power), G2 GND (power), G7 GND (power), G9 GND (power), G10 GND (power), G12 GND (power), G17 GND (power), G20 GND (power), H4 GND (power), H9 GND (power), H10 GND (power), H18 GND (power), H19 GND (power), H20 GND (power), H21 GND (power), H22 GND (power), J6 GND (power), J9 GND (power), J10 GND (power), J11 GND (power), J16 GND (power), J18 GND (power), K8 GND (power), K9 GND (power), K10 GND (power), K11 GND (power), K13 GND (power), K18 GND (power), K21 GND (power), K22 GND (power), L5 GND (power), L10 GND (power), L15 GND (power), L18 GND (power), L20 GND (power), M2 GND (power), M3 GND (power), M7 GND (power), M9 GNDSENSE (power), M12 GND (power), M18 GND (power), M21 GND (power), M22 GND (power), N4 GND (power), N9 GND (power), N14 GND (power), N18 GND (power), P1 GND (power), P6 GND (power), P11 GND (power), P16 GND (power), P18 GND (power), P19 GND (power), P20 GND (power), P21 GND (power), P22 GND (power), R3 GND (power), R8 GND (power), R13 GND (power), R20 GND (power), T5 GND (power), T10 GND (power), T20 GND (power), T21 GND (power), T22 GND (power), U2 GND (power), U4 GND (power), U7 GND (power), U17 GND (power), U20 GND (power), V4 GND (power), V20 GND (power), V21 GND (power), V22 GND (power), W1 GND (power), W11 GND (power), W16 GND (power), W18 GND (power), W19 GND (power), W20 GND (power), Y3 GND (power), Y13 GND (power), Y18 GND (power), Y21 GND (power), Y22 GND (power)
part A text: Arria 10 10AX016C4U19I3SG; BANK 2L
part B text: Arria 10 10AX016C4U19I3SG; BANK 2K
part C text: Arria 10 10AX016C4U19I3SG; BANK 2J
part D text: Arria 10 10AX016C4U19I3SG; BANK 2A
part E text: Arria 10 10AX016C4U19I3SG; BANK 1C
part F text: Arria 10 10AX016C4U19I3SG; BANK 3B
part G text: Intel Cyclone10 GX 10CX220YF780I5G; Power Supply
part H text: Arria 10 10AX016C4U19I3SG; Power Ground

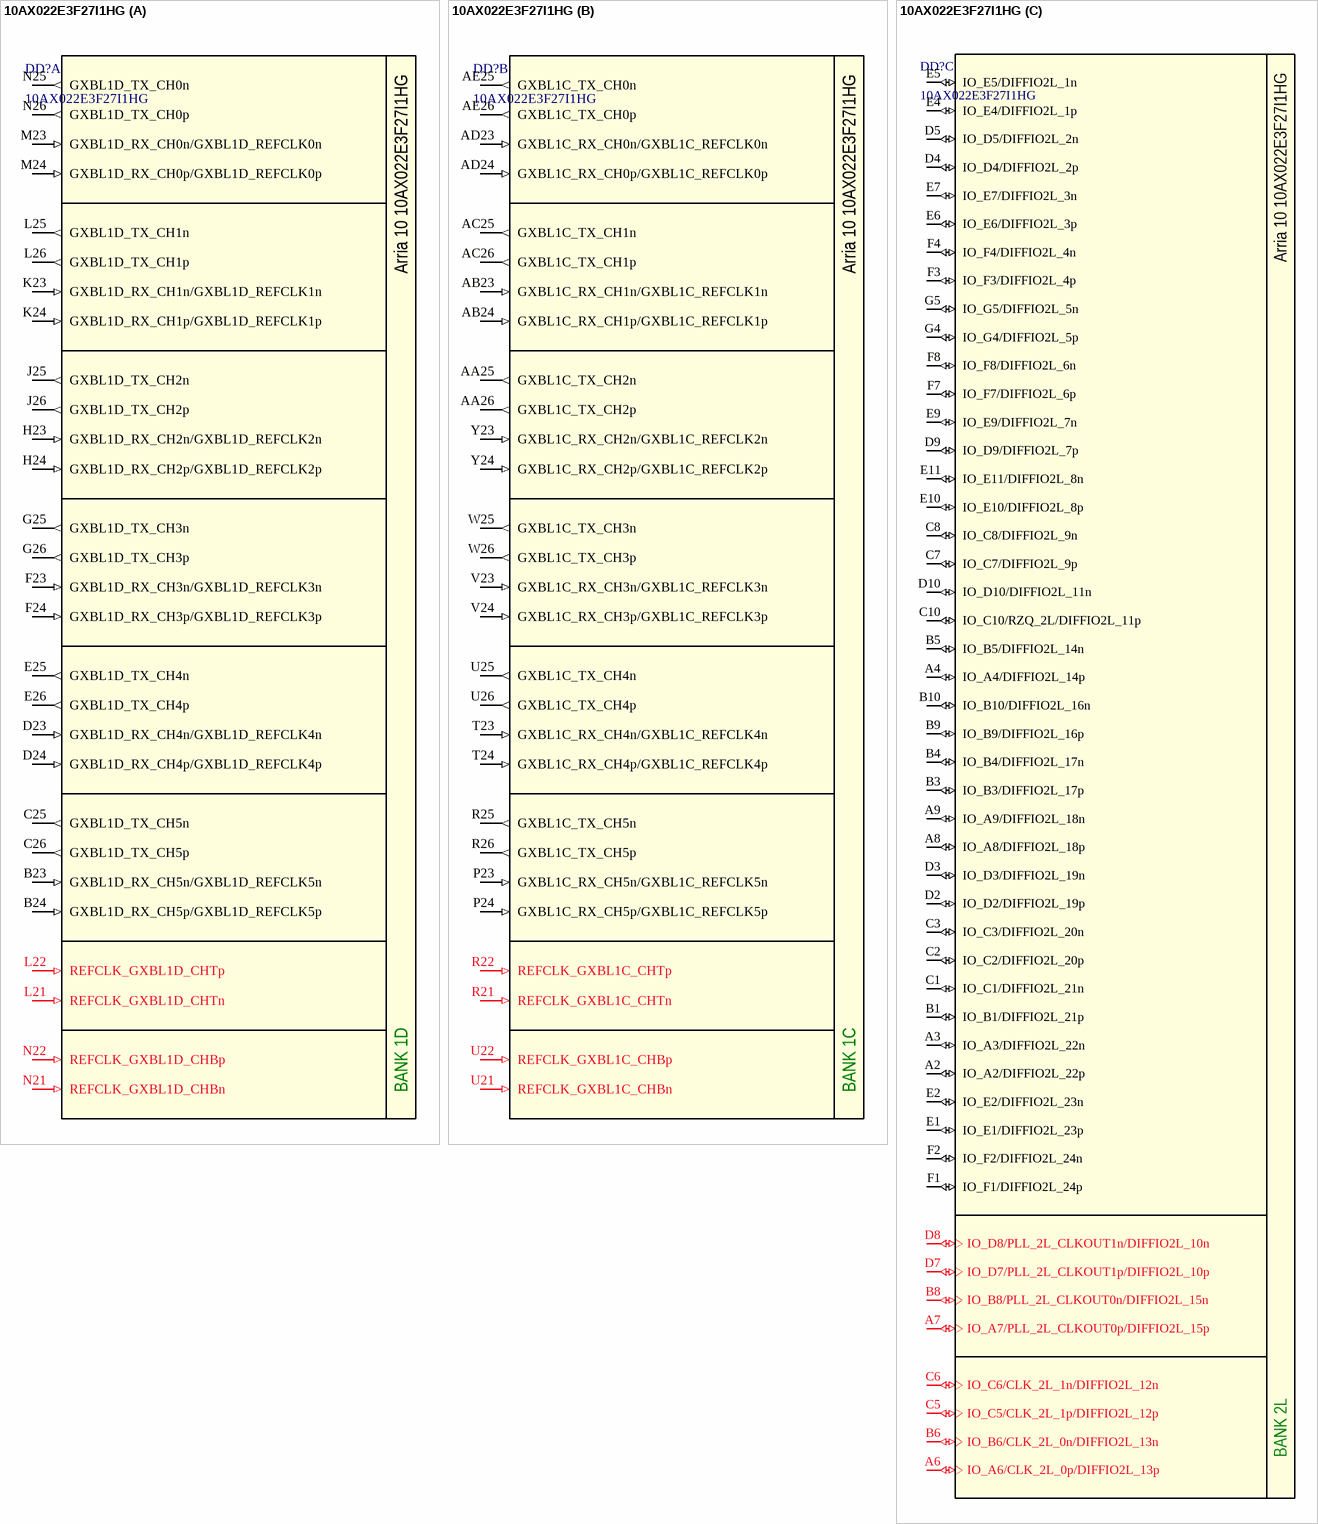
[diagram p9: symbol 10AX022E3F27I1HG]

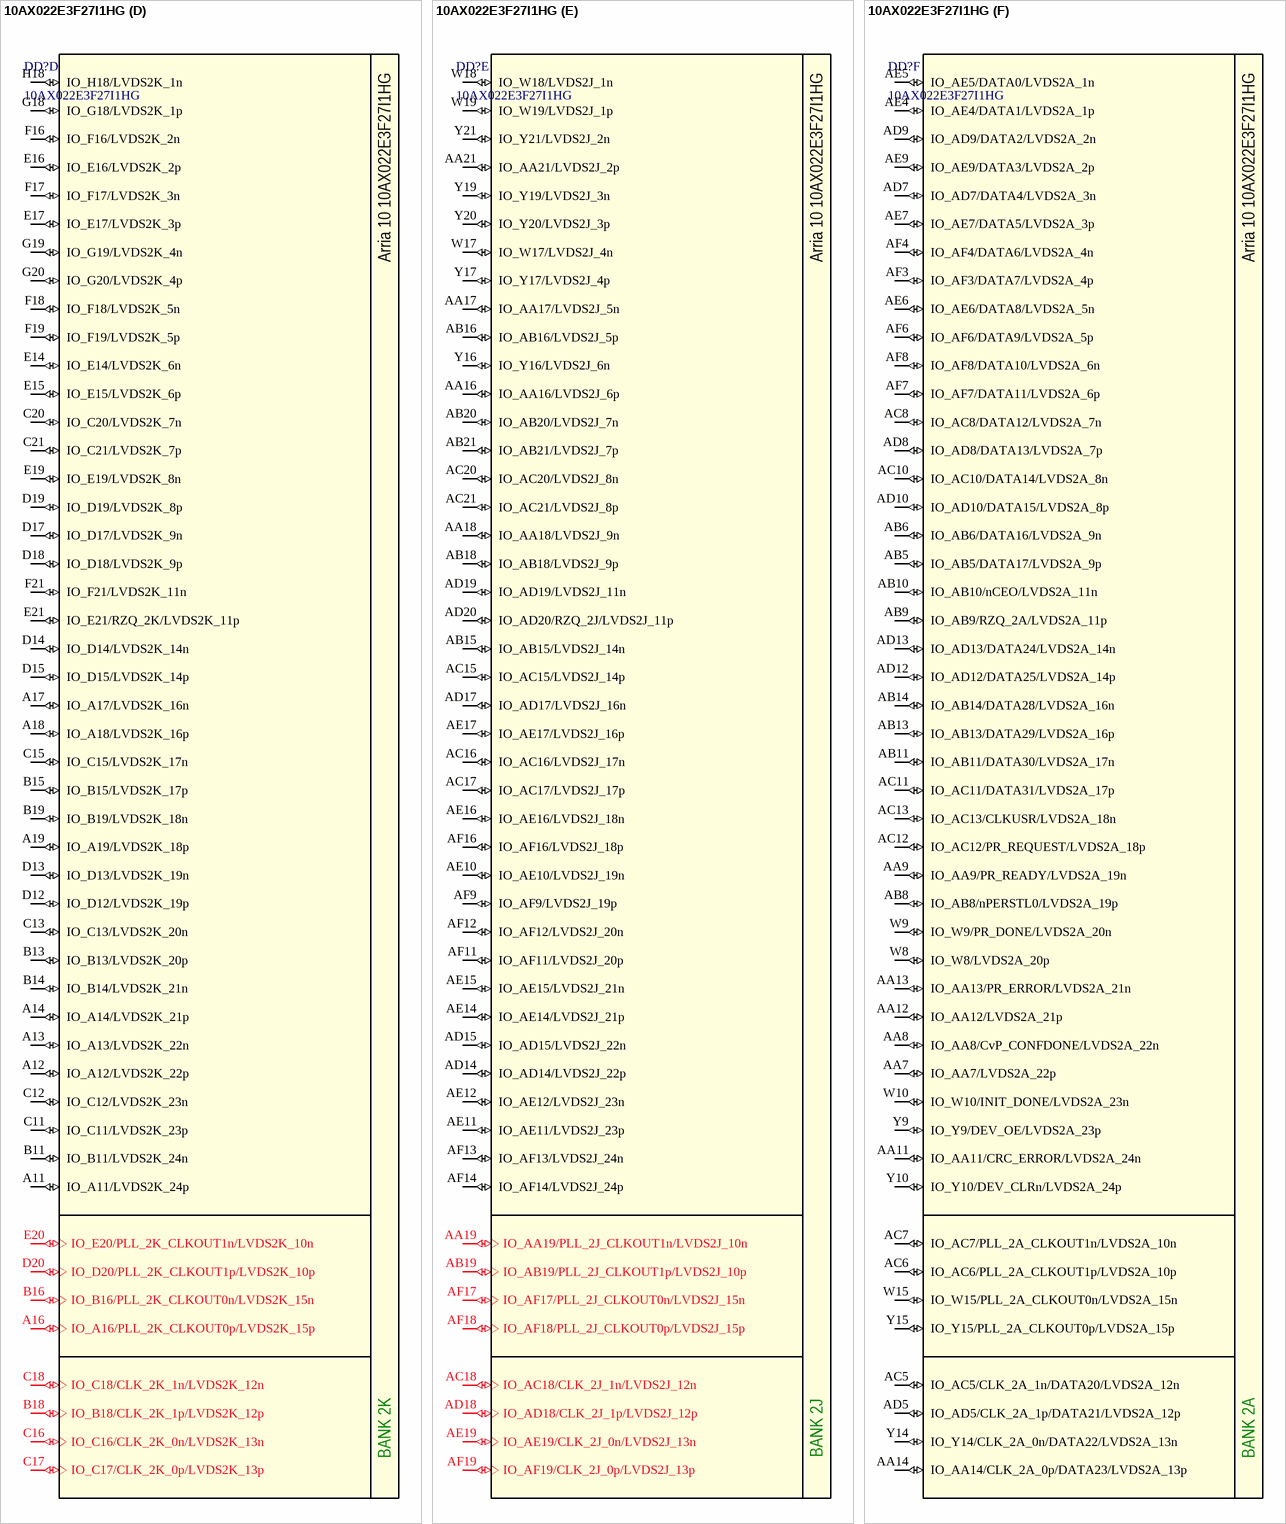
[diagram p10: symbol 10AX022E3F27I1HG]

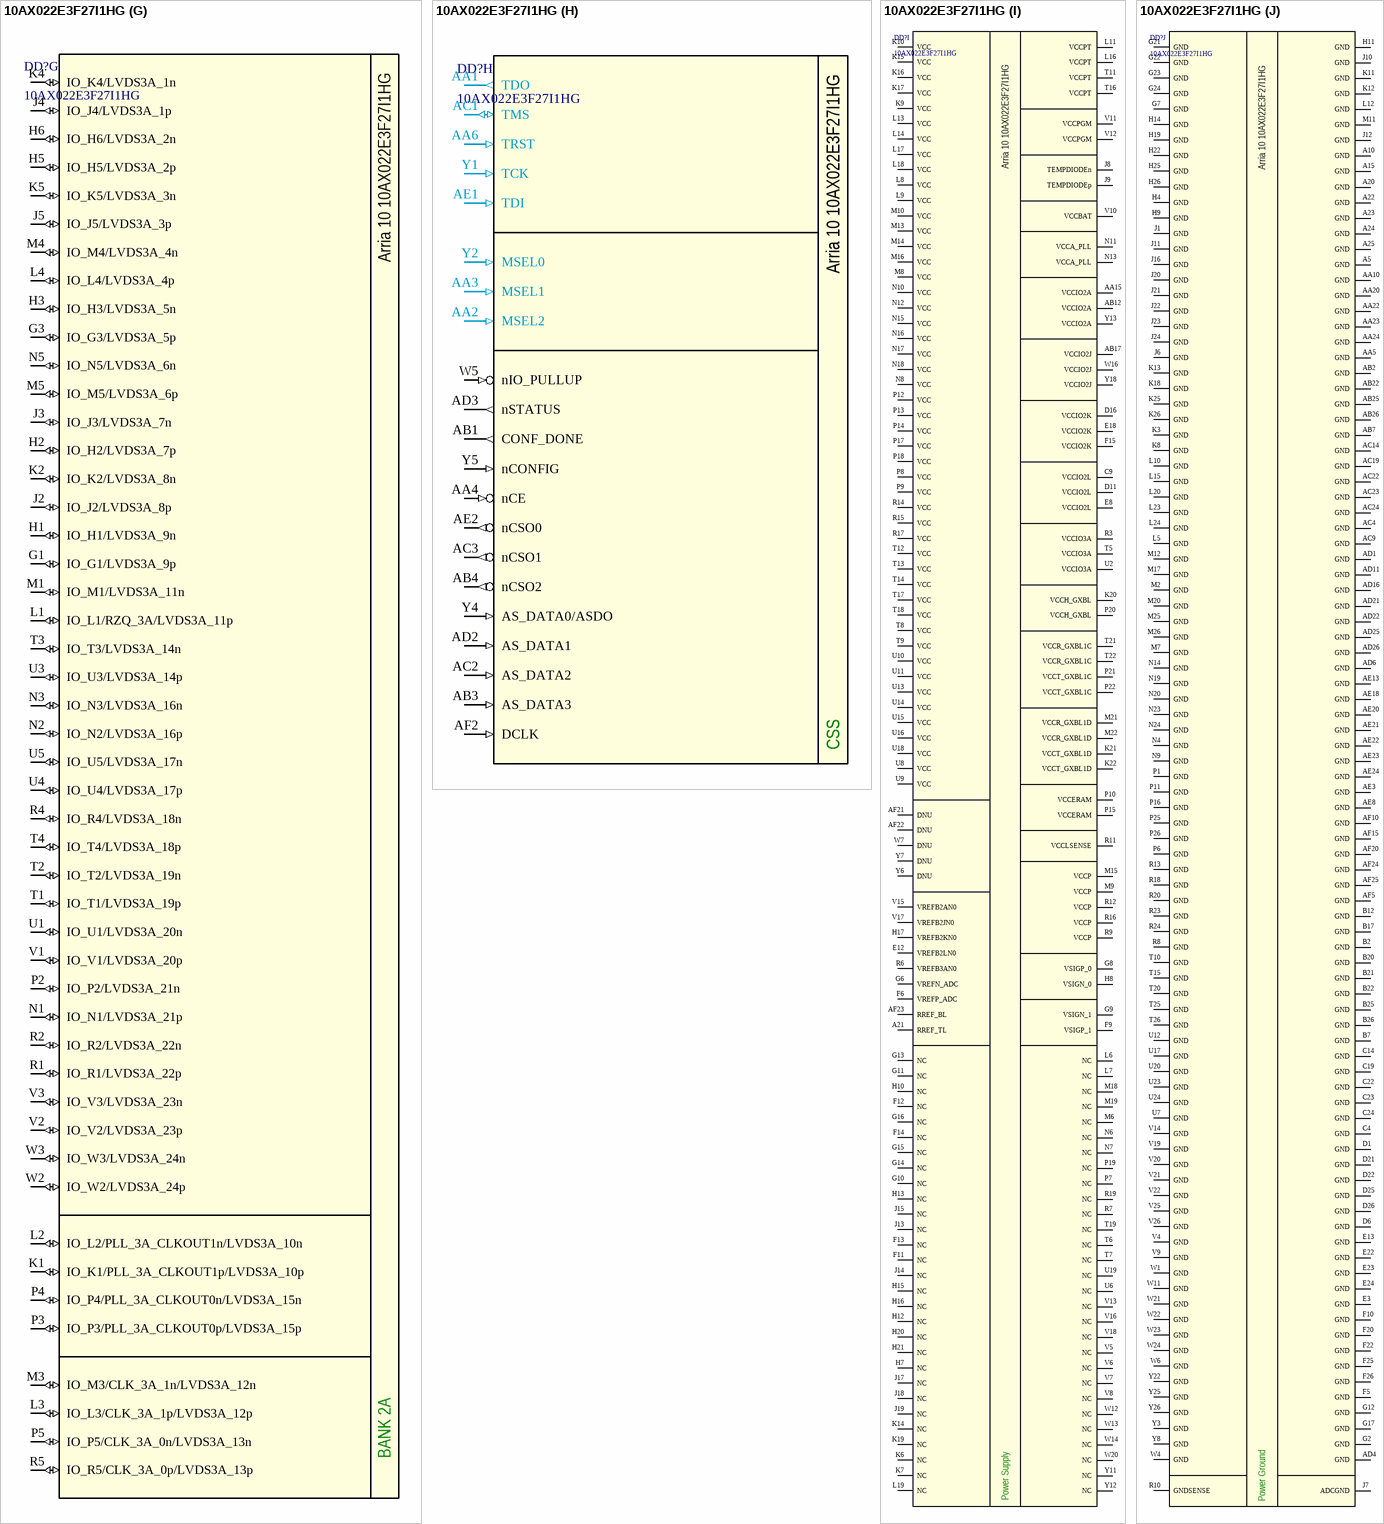
[diagram p11: symbol 10AX022E3F27I1HG]